# Altium schematic symbol library ColdFire MCU.SchLib: 117 symbols (part 3 of 7)
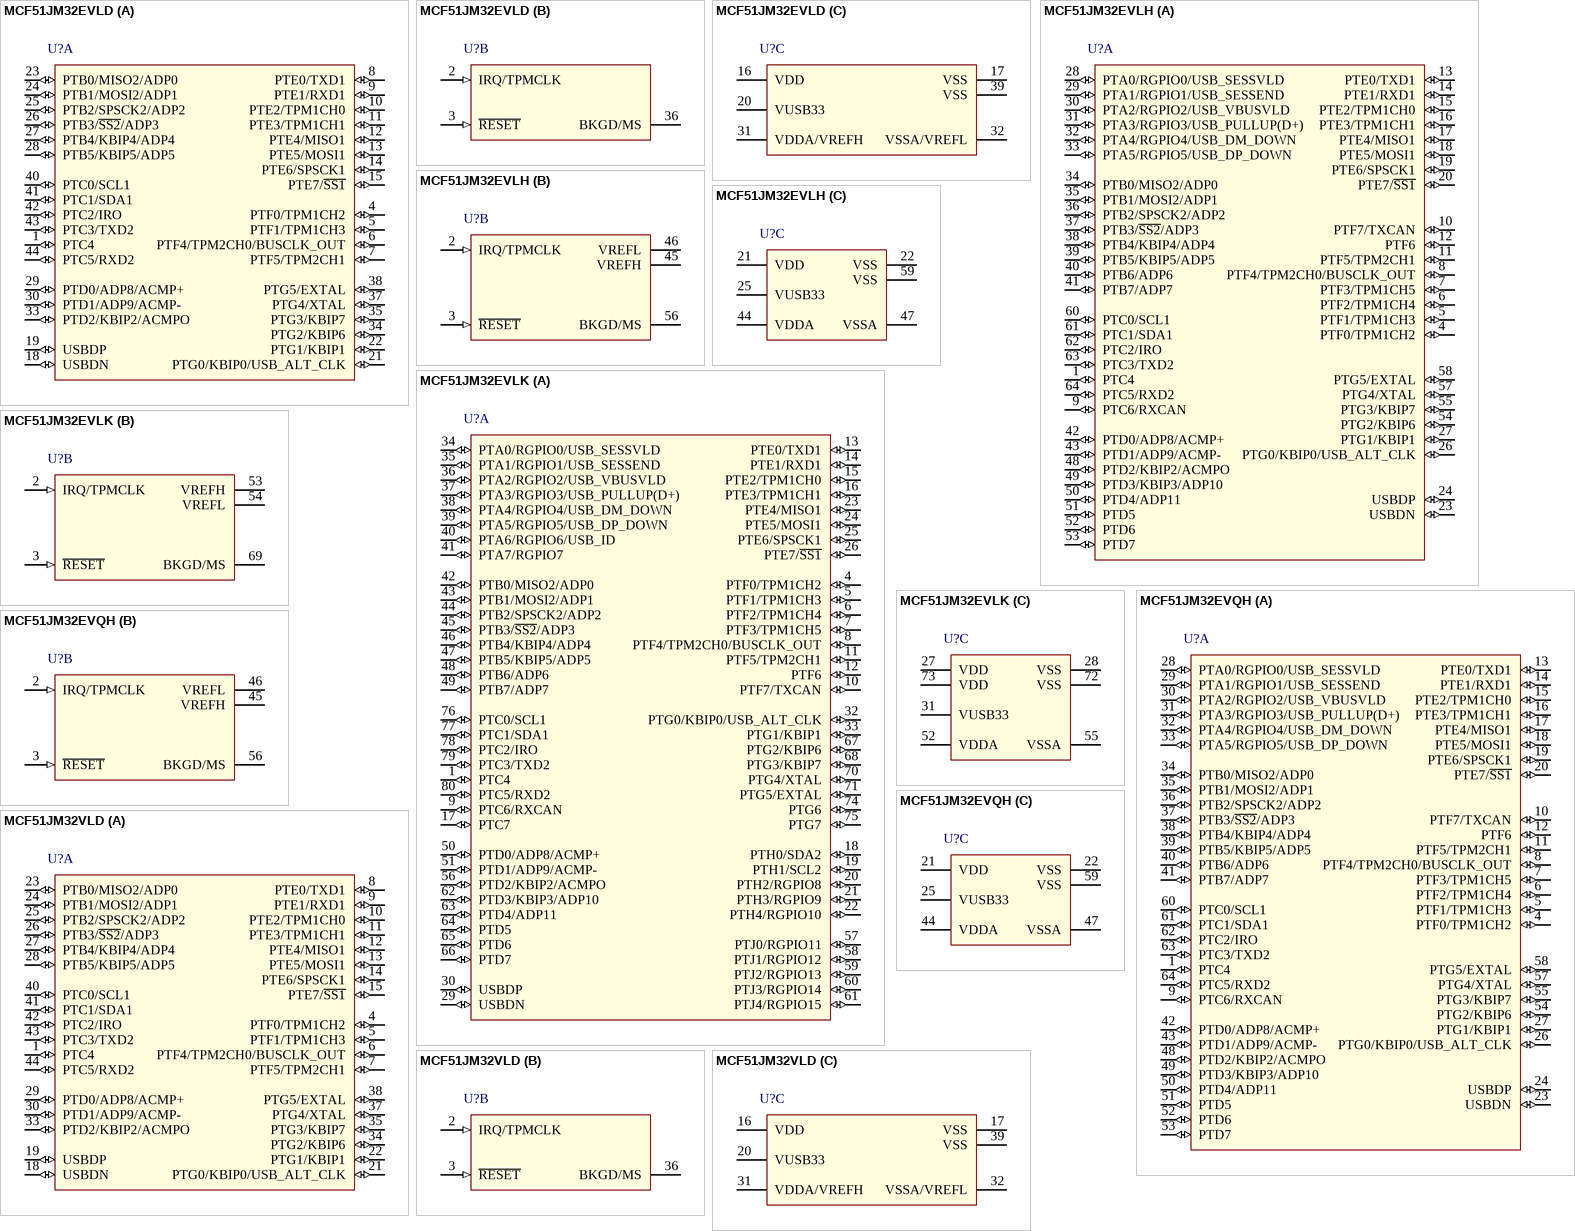
[diagram p33: symbols MCF51JM32EVLD to MCF51JM32VLD]

## MCF51JM32VLD
designator U?
MCF51JM32 ColdFire V1 Microcontroller, 32-Bit, 32KB Flash, 16KB SRAM, -40°C to 105°C, 44-Pin LQFP; DatasheetVersion: rev3, Jun-2009; PackageVersion: rev3, Jun-2009; PackageReference: 824D-02; PackageDescription: 44-Pin Thin Quad Flat Pack, 10 x 10 mm Body, 0.8 mm Pitch; Code_JEDEC: MS-026-BCB; ComponentLink1Description: Manufacturer URL; ComponentLink1URL: http://www.freescale.com/; ComponentLink2Description: Datasheet; ComponentLink2URL: http://cache.freescale.com/files/32bit/doc/data_sheet/MCF51JM128.pdf?fpsp=1&WT_TYPE=Data%20Sheets&WT_VENDOR=FREESCALE&WT_FILE_FORMAT=pdf&WT_ASSET=Documentation
footprint 824D-02_N (Thin QFP, 44-Leads, Body 10x10mm, Pitch 0.8mm, IPC Medium Density)
footprint 824D-02_L (Thin QFP, 44-Leads, Body 10x10mm, Pitch 0.8mm, IPC High Density)
footprint 824D-02_M (Thin QFP, 44-Leads, Body 10x10mm, Pitch 0.8mm, IPC Low Density)
part A pins: 1 PTC4 (io), 4 PTF0/TPM1CH2 (io), 5 PTF1/TPM1CH3 (io), 6 PTF4/TPM2CH0/BUSCLK_OUT (io), 7 PTF5/TPM2CH1 (io), 8 PTE0/TXD1 (io), 9 PTE1/RXD1 (io), 10 PTE2/TPM1CH0 (io), 11 PTE3/TPM1CH1 (io), 12 PTE4/MISO1 (io), 13 PTE5/MOSI1 (io), 14 PTE6/SPSCK1 (io), 15 PTE7/~{SS1} (io), 18 USBDN (io), 19 USBDP (io), 21 PTG0/KBIP0/USB_ALT_CLK (io), 22 PTG1/KBIP1 (io), 23 PTB0/MISO2/ADP0 (io), 24 PTB1/MOSI2/ADP1 (io), 25 PTB2/SPSCK2/ADP2 (io), 26 PTB3/~{SS2}/ADP3 (io), 27 PTB4/KBIP4/ADP4 (io), 28 PTB5/KBIP5/ADP5 (io), 29 PTD0/ADP8/ACMP+ (io), 30 PTD1/ADP9/ACMP- (io), 33 PTD2/KBIP2/ACMPO (io), 34 PTG2/KBIP6 (io), 35 PTG3/KBIP7 (io), 37 PTG4/XTAL (io), 38 PTG5/EXTAL (io), 40 PTC0/SCL1 (io), 41 PTC1/SDA1 (io), 42 PTC2/IRO (io), 43 PTC3/TXD2 (io), 44 PTC5/RXD2 (io)
part B pins: 2 IRQ/TPMCLK (in), 3 ~{RESET} (in), 36 BKGD/MS
part C pins: 16 VDD (power), 17 VSS (power), 20 VUSB33 (power), 31 VDDA/VREFH (power), 32 VSSA/VREFL (power), 39 VSS (power)

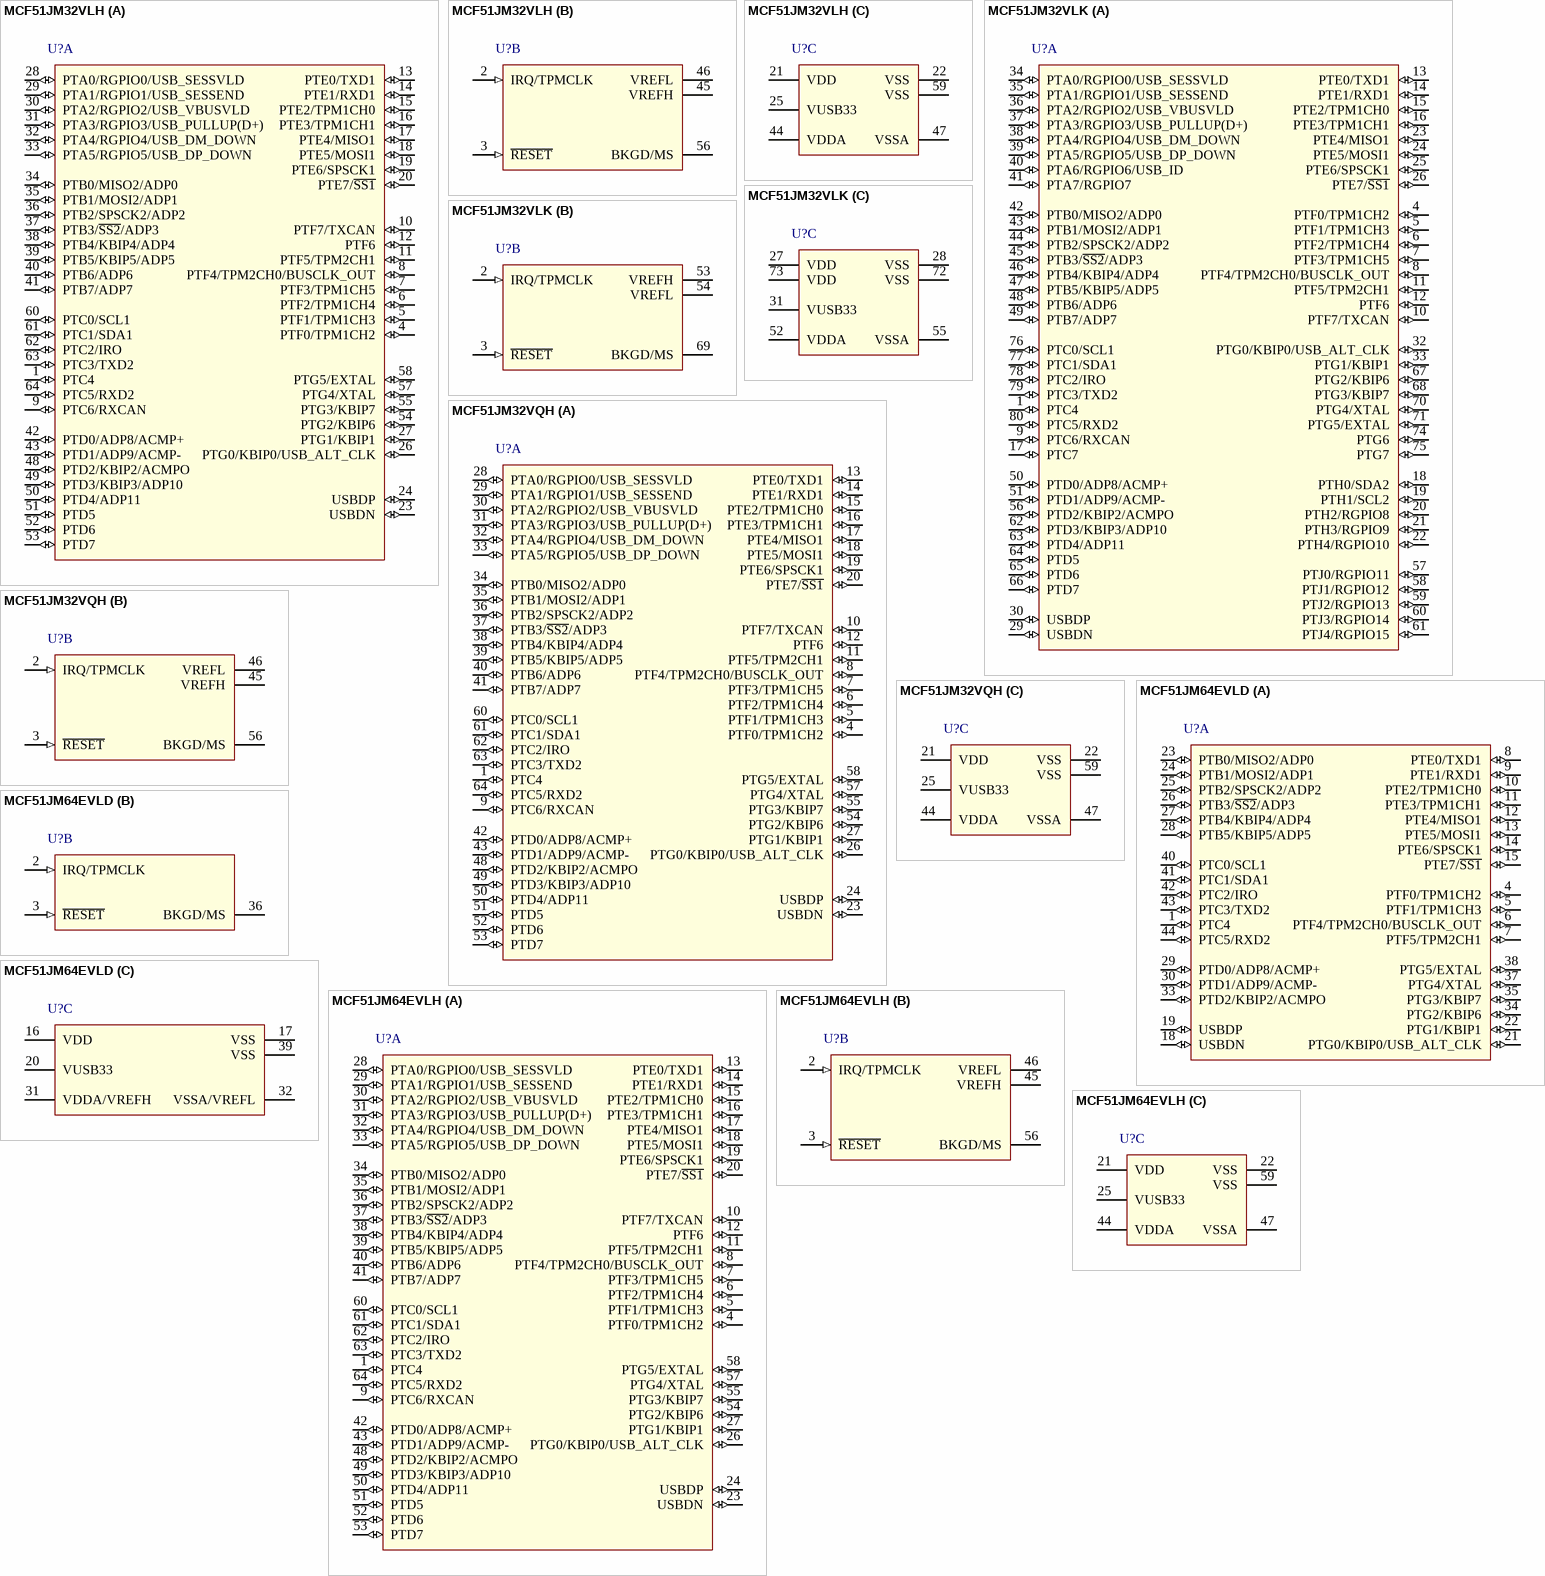
[diagram p9: symbols MCF51JM32VLH to MCF51JM64EVLH]

## MCF51JM32VLH
designator U?
MCF51JM32 ColdFire V1 Microcontroller, 32-Bit, 32KB Flash, 16KB SRAM, -40°C to 105°C, 64-Pin LQFP; DatasheetVersion: rev3, Jun-2009; PackageVersion: rev6, Mar-2011; PackageReference: 840F-02; PackageDescription: 64-Pin Thin Quad Flat Pack, 10 x 10 mm Body, 0.5 mm Pitch; ComponentLink1Description: Manufacturer URL; ComponentLink1URL: http://www.freescale.com/; ComponentLink2Description: Datasheet; ComponentLink2URL: http://cache.freescale.com/files/32bit/doc/data_sheet/MCF51JM128.pdf?fpsp=1&WT_TYPE=Data%20Sheets&WT_VENDOR=FREESCALE&WT_FILE_FORMAT=pdf&WT_ASSET=Documentation
footprint 840F-02_N (Thin QFP, 64-Leads, Body 10x10mm, Pitch 0.5mm, IPC Medium Density)
footprint 840F-02_L (Thin QFP, 64-Leads, Body 10x10mm, Pitch 0.5mm, IPC High Density)
footprint 840F-02_M (Thin QFP, 64-Leads, Body 10x10mm, Pitch 0.5mm, IPC Low Density)
part A pins: 1 PTC4 (io), 4 PTF0/TPM1CH2 (io), 5 PTF1/TPM1CH3 (io), 6 PTF2/TPM1CH4 (io), 7 PTF3/TPM1CH5 (io), 8 PTF4/TPM2CH0/BUSCLK_OUT (io), 9 PTC6/RXCAN (io), 10 PTF7/TXCAN (io), 11 PTF5/TPM2CH1 (io), 12 PTF6 (io), 13 PTE0/TXD1 (io), 14 PTE1/RXD1 (io), 15 PTE2/TPM1CH0 (io), 16 PTE3/TPM1CH1 (io), 17 PTE4/MISO1 (io), 18 PTE5/MOSI1 (io), 19 PTE6/SPSCK1 (io), 20 PTE7/~{SS1} (io), 23 USBDN (io), 24 USBDP (io), 26 PTG0/KBIP0/USB_ALT_CLK (io), 27 PTG1/KBIP1 (io), 28 PTA0/RGPIO0/USB_SESSVLD (io), 29 PTA1/RGPIO1/USB_SESSEND (io), 30 PTA2/RGPIO2/USB_VBUSVLD (io), 31 PTA3/RGPIO3/USB_PULLUP(D+) (io), 32 PTA4/RGPIO4/USB_DM_DOWN (io), 33 PTA5/RGPIO5/USB_DP_DOWN (io), 34 PTB0/MISO2/ADP0 (io), 35 PTB1/MOSI2/ADP1 (io), 36 PTB2/SPSCK2/ADP2 (io), 37 PTB3/~{SS2}/ADP3 (io), 38 PTB4/KBIP4/ADP4 (io), 39 PTB5/KBIP5/ADP5 (io), 40 PTB6/ADP6 (io), 41 PTB7/ADP7 (io), 42 PTD0/ADP8/ACMP+ (io), 43 PTD1/ADP9/ACMP- (io), 48 PTD2/KBIP2/ACMPO (io), 49 PTD3/KBIP3/ADP10 (io), 50 PTD4/ADP11 (io), 51 PTD5 (io), 52 PTD6 (io), 53 PTD7 (io), 54 PTG2/KBIP6 (io), 55 PTG3/KBIP7 (io), 57 PTG4/XTAL (io), 58 PTG5/EXTAL (io), 60 PTC0/SCL1 (io), 61 PTC1/SDA1 (io), 62 PTC2/IRO (io), 63 PTC3/TXD2 (io), 64 PTC5/RXD2 (io)
part B pins: 2 IRQ/TPMCLK (in), 3 ~{RESET} (in), 45 VREFH (power), 46 VREFL (power), 56 BKGD/MS
part C pins: 21 VDD (power), 22 VSS (power), 25 VUSB33 (power), 44 VDDA (power), 47 VSSA (power), 59 VSS (power)

## MCF51JM32VLK
designator U?
MCF51JM32 ColdFire V1 Microcontroller, 32-Bit, 32KB Flash, 16KB SRAM, -40°C to 105°C, 80-Pin LQFP; DatasheetVersion: rev3, Jun-2009; PackageVersion: revC, May-2005; PackageReference: 1418-01; PackageDescription: 80-Pin Quad Flat Pack 0.65 mm Pitch; ComponentLink1Description: Manufacturer URL; ComponentLink1URL: http://www.freescale.com/; ComponentLink2Description: Datasheet; ComponentLink2URL: http://cache.freescale.com/files/32bit/doc/data_sheet/MCF51JM128.pdf?fpsp=1&WT_TYPE=Data%20Sheets&WT_VENDOR=FREESCALE&WT_FILE_FORMAT=pdf&WT_ASSET=Documentation
footprint 1418-01_N (QFP, 80-Leads, Body 14x14mm, Pitch 0.65mm, IPC Medium Density)
footprint 1418-01_L (QFP, 80-Leads, Body 14x14mm, Pitch 0.65mm, IPC High Density)
footprint 1418-01_M (QFP, 80-Leads, Body 14x14mm, Pitch 0.65mm, IPC Low Density)
part A pins: 1 PTC4 (io), 4 PTF0/TPM1CH2 (io), 5 PTF1/TPM1CH3 (io), 6 PTF2/TPM1CH4 (io), 7 PTF3/TPM1CH5 (io), 8 PTF4/TPM2CH0/BUSCLK_OUT (io), 9 PTC6/RXCAN (io), 10 PTF7/TXCAN (io), 11 PTF5/TPM2CH1 (io), 12 PTF6 (io), 13 PTE0/TXD1 (io), 14 PTE1/RXD1 (io), 15 PTE2/TPM1CH0 (io), 16 PTE3/TPM1CH1 (io), 17 PTC7 (io), 18 PTH0/SDA2 (io), 19 PTH1/SCL2 (io), 20 PTH2/RGPIO8 (io), 21 PTH3/RGPIO9 (io), 22 PTH4/RGPIO10 (io), 23 PTE4/MISO1 (io), 24 PTE5/MOSI1 (io), 25 PTE6/SPSCK1 (io), 26 PTE7/~{SS1} (io), 29 USBDN (io), 30 USBDP (io), 32 PTG0/KBIP0/USB_ALT_CLK (io), 33 PTG1/KBIP1 (io), 34 PTA0/RGPIO0/USB_SESSVLD (io), 35 PTA1/RGPIO1/USB_SESSEND (io), 36 PTA2/RGPIO2/USB_VBUSVLD (io), 37 PTA3/RGPIO3/USB_PULLUP(D+) (io), 38 PTA4/RGPIO4/USB_DM_DOWN (io), 39 PTA5/RGPIO5/USB_DP_DOWN (io), 40 PTA6/RGPIO6/USB_ID (io), 41 PTA7/RGPIO7 (io), 42 PTB0/MISO2/ADP0 (io), 43 PTB1/MOSI2/ADP1 (io), 44 PTB2/SPSCK2/ADP2 (io), 45 PTB3/~{SS2}/ADP3 (io), 46 PTB4/KBIP4/ADP4 (io), 47 PTB5/KBIP5/ADP5 (io), 48 PTB6/ADP6 (io), 49 PTB7/ADP7 (io), 50 PTD0/ADP8/ACMP+ (io), 51 PTD1/ADP9/ACMP- (io), 56 PTD2/KBIP2/ACMPO (io), 57 PTJ0/RGPIO11 (io), 58 PTJ1/RGPIO12 (io), 59 PTJ2/RGPIO13 (io), 60 PTJ3/RGPIO14 (io), 61 PTJ4/RGPIO15 (io), 62 PTD3/KBIP3/ADP10 (io), 63 PTD4/ADP11 (io), 64 PTD5 (io), 65 PTD6 (io), 66 PTD7 (io), 67 PTG2/KBIP6 (io), 68 PTG3/KBIP7 (io), 70 PTG4/XTAL (io), 71 PTG5/EXTAL (io), 74 PTG6 (io), 75 PTG7 (io), 76 PTC0/SCL1 (io), 77 PTC1/SDA1 (io), 78 PTC2/IRO (io), 79 PTC3/TXD2 (io), 80 PTC5/RXD2 (io)
part B pins: 2 IRQ/TPMCLK (in), 3 ~{RESET} (in), 53 VREFH (power), 54 VREFL (power), 69 BKGD/MS
part C pins: 27 VDD (power), 28 VSS (power), 31 VUSB33 (power), 52 VDDA (power), 55 VSSA (power), 72 VSS (power), 73 VDD (power)

## MCF51JM32VQH
designator U?
MCF51JM32 ColdFire V1 Microcontroller, 32-Bit, 32KB Flash, 16KB SRAM, -40°C to 105°C, 64-Pin QFP; DatasheetVersion: rev3, Jun-2009; PackageVersion: rev6, Mar-2011; PackageReference: 840B-02; PackageDescription: 64-Pin Quad Flat Pack, 14 x 14 mm Body, 0.8 mm Pitch; ComponentLink1Description: Manufacturer URL; ComponentLink1URL: http://www.freescale.com/; ComponentLink2Description: Datasheet; ComponentLink2URL: http://cache.freescale.com/files/32bit/doc/data_sheet/MCF51JM128.pdf?fpsp=1&WT_TYPE=Data%20Sheets&WT_VENDOR=FREESCALE&WT_FILE_FORMAT=pdf&WT_ASSET=Documentation
footprint 840B-02_N (QFP, 64-Leads, Body 14x14mm, Pitch 0.8mm, IPC Medium Density)
footprint 840B-02_L (QFP, 64-Leads, Body 14x14mm, Pitch 0.8mm, IPC High Density)
footprint 840B-02_M (QFP, 64-Leads, Body 14x14mm, Pitch 0.8mm, IPC Low Density)
part A pins: 1 PTC4 (io), 4 PTF0/TPM1CH2 (io), 5 PTF1/TPM1CH3 (io), 6 PTF2/TPM1CH4 (io), 7 PTF3/TPM1CH5 (io), 8 PTF4/TPM2CH0/BUSCLK_OUT (io), 9 PTC6/RXCAN (io), 10 PTF7/TXCAN (io), 11 PTF5/TPM2CH1 (io), 12 PTF6 (io), 13 PTE0/TXD1 (io), 14 PTE1/RXD1 (io), 15 PTE2/TPM1CH0 (io), 16 PTE3/TPM1CH1 (io), 17 PTE4/MISO1 (io), 18 PTE5/MOSI1 (io), 19 PTE6/SPSCK1 (io), 20 PTE7/~{SS1} (io), 23 USBDN (io), 24 USBDP (io), 26 PTG0/KBIP0/USB_ALT_CLK (io), 27 PTG1/KBIP1 (io), 28 PTA0/RGPIO0/USB_SESSVLD (io), 29 PTA1/RGPIO1/USB_SESSEND (io), 30 PTA2/RGPIO2/USB_VBUSVLD (io), 31 PTA3/RGPIO3/USB_PULLUP(D+) (io), 32 PTA4/RGPIO4/USB_DM_DOWN (io), 33 PTA5/RGPIO5/USB_DP_DOWN (io), 34 PTB0/MISO2/ADP0 (io), 35 PTB1/MOSI2/ADP1 (io), 36 PTB2/SPSCK2/ADP2 (io), 37 PTB3/~{SS2}/ADP3 (io), 38 PTB4/KBIP4/ADP4 (io), 39 PTB5/KBIP5/ADP5 (io), 40 PTB6/ADP6 (io), 41 PTB7/ADP7 (io), 42 PTD0/ADP8/ACMP+ (io), 43 PTD1/ADP9/ACMP- (io), 48 PTD2/KBIP2/ACMPO (io), 49 PTD3/KBIP3/ADP10 (io), 50 PTD4/ADP11 (io), 51 PTD5 (io), 52 PTD6 (io), 53 PTD7 (io), 54 PTG2/KBIP6 (io), 55 PTG3/KBIP7 (io), 57 PTG4/XTAL (io), 58 PTG5/EXTAL (io), 60 PTC0/SCL1 (io), 61 PTC1/SDA1 (io), 62 PTC2/IRO (io), 63 PTC3/TXD2 (io), 64 PTC5/RXD2 (io)
part B pins: 2 IRQ/TPMCLK (in), 3 ~{RESET} (in), 45 VREFH (power), 46 VREFL (power), 56 BKGD/MS
part C pins: 21 VDD (power), 22 VSS (power), 25 VUSB33 (power), 44 VDDA (power), 47 VSSA (power), 59 VSS (power)

## MCF51JM64EVLD
designator U?
MCF51JM64 ColdFire V1 Microcontroller with CAU and RNGA Enabled, 32-Bit, 64KB Flash, 16KB SRAM, -40°C to 105°C, 44-Pin LQFP; DatasheetVersion: rev3, Jun-2009; PackageVersion: rev3, Jun-2009; PackageReference: 824D-02; PackageDescription: 44-Pin Thin Quad Flat Pack, 10 x 10 mm Body, 0.8 mm Pitch; Code_JEDEC: MS-026-BCB; ComponentLink1Description: Manufacturer URL; ComponentLink1URL: http://www.freescale.com/; ComponentLink2Description: Datasheet; ComponentLink2URL: http://cache.freescale.com/files/32bit/doc/data_sheet/MCF51JM128.pdf?fpsp=1&WT_TYPE=Data%20Sheets&WT_VENDOR=FREESCALE&WT_FILE_FORMAT=pdf&WT_ASSET=Documentation
footprint 824D-02_N (Thin QFP, 44-Leads, Body 10x10mm, Pitch 0.8mm, IPC Medium Density)
footprint 824D-02_L (Thin QFP, 44-Leads, Body 10x10mm, Pitch 0.8mm, IPC High Density)
footprint 824D-02_M (Thin QFP, 44-Leads, Body 10x10mm, Pitch 0.8mm, IPC Low Density)
part A pins: 1 PTC4 (io), 4 PTF0/TPM1CH2 (io), 5 PTF1/TPM1CH3 (io), 6 PTF4/TPM2CH0/BUSCLK_OUT (io), 7 PTF5/TPM2CH1 (io), 8 PTE0/TXD1 (io), 9 PTE1/RXD1 (io), 10 PTE2/TPM1CH0 (io), 11 PTE3/TPM1CH1 (io), 12 PTE4/MISO1 (io), 13 PTE5/MOSI1 (io), 14 PTE6/SPSCK1 (io), 15 PTE7/~{SS1} (io), 18 USBDN (io), 19 USBDP (io), 21 PTG0/KBIP0/USB_ALT_CLK (io), 22 PTG1/KBIP1 (io), 23 PTB0/MISO2/ADP0 (io), 24 PTB1/MOSI2/ADP1 (io), 25 PTB2/SPSCK2/ADP2 (io), 26 PTB3/~{SS2}/ADP3 (io), 27 PTB4/KBIP4/ADP4 (io), 28 PTB5/KBIP5/ADP5 (io), 29 PTD0/ADP8/ACMP+ (io), 30 PTD1/ADP9/ACMP- (io), 33 PTD2/KBIP2/ACMPO (io), 34 PTG2/KBIP6 (io), 35 PTG3/KBIP7 (io), 37 PTG4/XTAL (io), 38 PTG5/EXTAL (io), 40 PTC0/SCL1 (io), 41 PTC1/SDA1 (io), 42 PTC2/IRO (io), 43 PTC3/TXD2 (io), 44 PTC5/RXD2 (io)
part B pins: 2 IRQ/TPMCLK (in), 3 ~{RESET} (in), 36 BKGD/MS
part C pins: 16 VDD (power), 17 VSS (power), 20 VUSB33 (power), 31 VDDA/VREFH (power), 32 VSSA/VREFL (power), 39 VSS (power)

## MCF51JM64EVLH
designator U?
MCF51JM64 ColdFire V1 Microcontroller with CAU and RNGA Enabled, 32-Bit, 64KB Flash, 16KB SRAM, -40°C to 105°C, 64-Pin LQFP; DatasheetVersion: rev3, Jun-2009; PackageVersion: rev6, Mar-2011; PackageReference: 840F-02; PackageDescription: 64-Pin Thin Quad Flat Pack, 10 x 10 mm Body, 0.5 mm Pitch; ComponentLink1Description: Manufacturer URL; ComponentLink1URL: http://www.freescale.com/; ComponentLink2Description: Datasheet; ComponentLink2URL: http://cache.freescale.com/files/32bit/doc/data_sheet/MCF51JM128.pdf?fpsp=1&WT_TYPE=Data%20Sheets&WT_VENDOR=FREESCALE&WT_FILE_FORMAT=pdf&WT_ASSET=Documentation
footprint 840F-02_N (Thin QFP, 64-Leads, Body 10x10mm, Pitch 0.5mm, IPC Medium Density)
footprint 840F-02_L (Thin QFP, 64-Leads, Body 10x10mm, Pitch 0.5mm, IPC High Density)
footprint 840F-02_M (Thin QFP, 64-Leads, Body 10x10mm, Pitch 0.5mm, IPC Low Density)
part A pins: 1 PTC4 (io), 4 PTF0/TPM1CH2 (io), 5 PTF1/TPM1CH3 (io), 6 PTF2/TPM1CH4 (io), 7 PTF3/TPM1CH5 (io), 8 PTF4/TPM2CH0/BUSCLK_OUT (io), 9 PTC6/RXCAN (io), 10 PTF7/TXCAN (io), 11 PTF5/TPM2CH1 (io), 12 PTF6 (io), 13 PTE0/TXD1 (io), 14 PTE1/RXD1 (io), 15 PTE2/TPM1CH0 (io), 16 PTE3/TPM1CH1 (io), 17 PTE4/MISO1 (io), 18 PTE5/MOSI1 (io), 19 PTE6/SPSCK1 (io), 20 PTE7/~{SS1} (io), 23 USBDN (io), 24 USBDP (io), 26 PTG0/KBIP0/USB_ALT_CLK (io), 27 PTG1/KBIP1 (io), 28 PTA0/RGPIO0/USB_SESSVLD (io), 29 PTA1/RGPIO1/USB_SESSEND (io), 30 PTA2/RGPIO2/USB_VBUSVLD (io), 31 PTA3/RGPIO3/USB_PULLUP(D+) (io), 32 PTA4/RGPIO4/USB_DM_DOWN (io), 33 PTA5/RGPIO5/USB_DP_DOWN (io), 34 PTB0/MISO2/ADP0 (io), 35 PTB1/MOSI2/ADP1 (io), 36 PTB2/SPSCK2/ADP2 (io), 37 PTB3/~{SS2}/ADP3 (io), 38 PTB4/KBIP4/ADP4 (io), 39 PTB5/KBIP5/ADP5 (io), 40 PTB6/ADP6 (io), 41 PTB7/ADP7 (io), 42 PTD0/ADP8/ACMP+ (io), 43 PTD1/ADP9/ACMP- (io), 48 PTD2/KBIP2/ACMPO (io), 49 PTD3/KBIP3/ADP10 (io), 50 PTD4/ADP11 (io), 51 PTD5 (io), 52 PTD6 (io), 53 PTD7 (io), 54 PTG2/KBIP6 (io), 55 PTG3/KBIP7 (io), 57 PTG4/XTAL (io), 58 PTG5/EXTAL (io), 60 PTC0/SCL1 (io), 61 PTC1/SDA1 (io), 62 PTC2/IRO (io), 63 PTC3/TXD2 (io), 64 PTC5/RXD2 (io)
part B pins: 2 IRQ/TPMCLK (in), 3 ~{RESET} (in), 45 VREFH (power), 46 VREFL (power), 56 BKGD/MS
part C pins: 21 VDD (power), 22 VSS (power), 25 VUSB33 (power), 44 VDDA (power), 47 VSSA (power), 59 VSS (power)

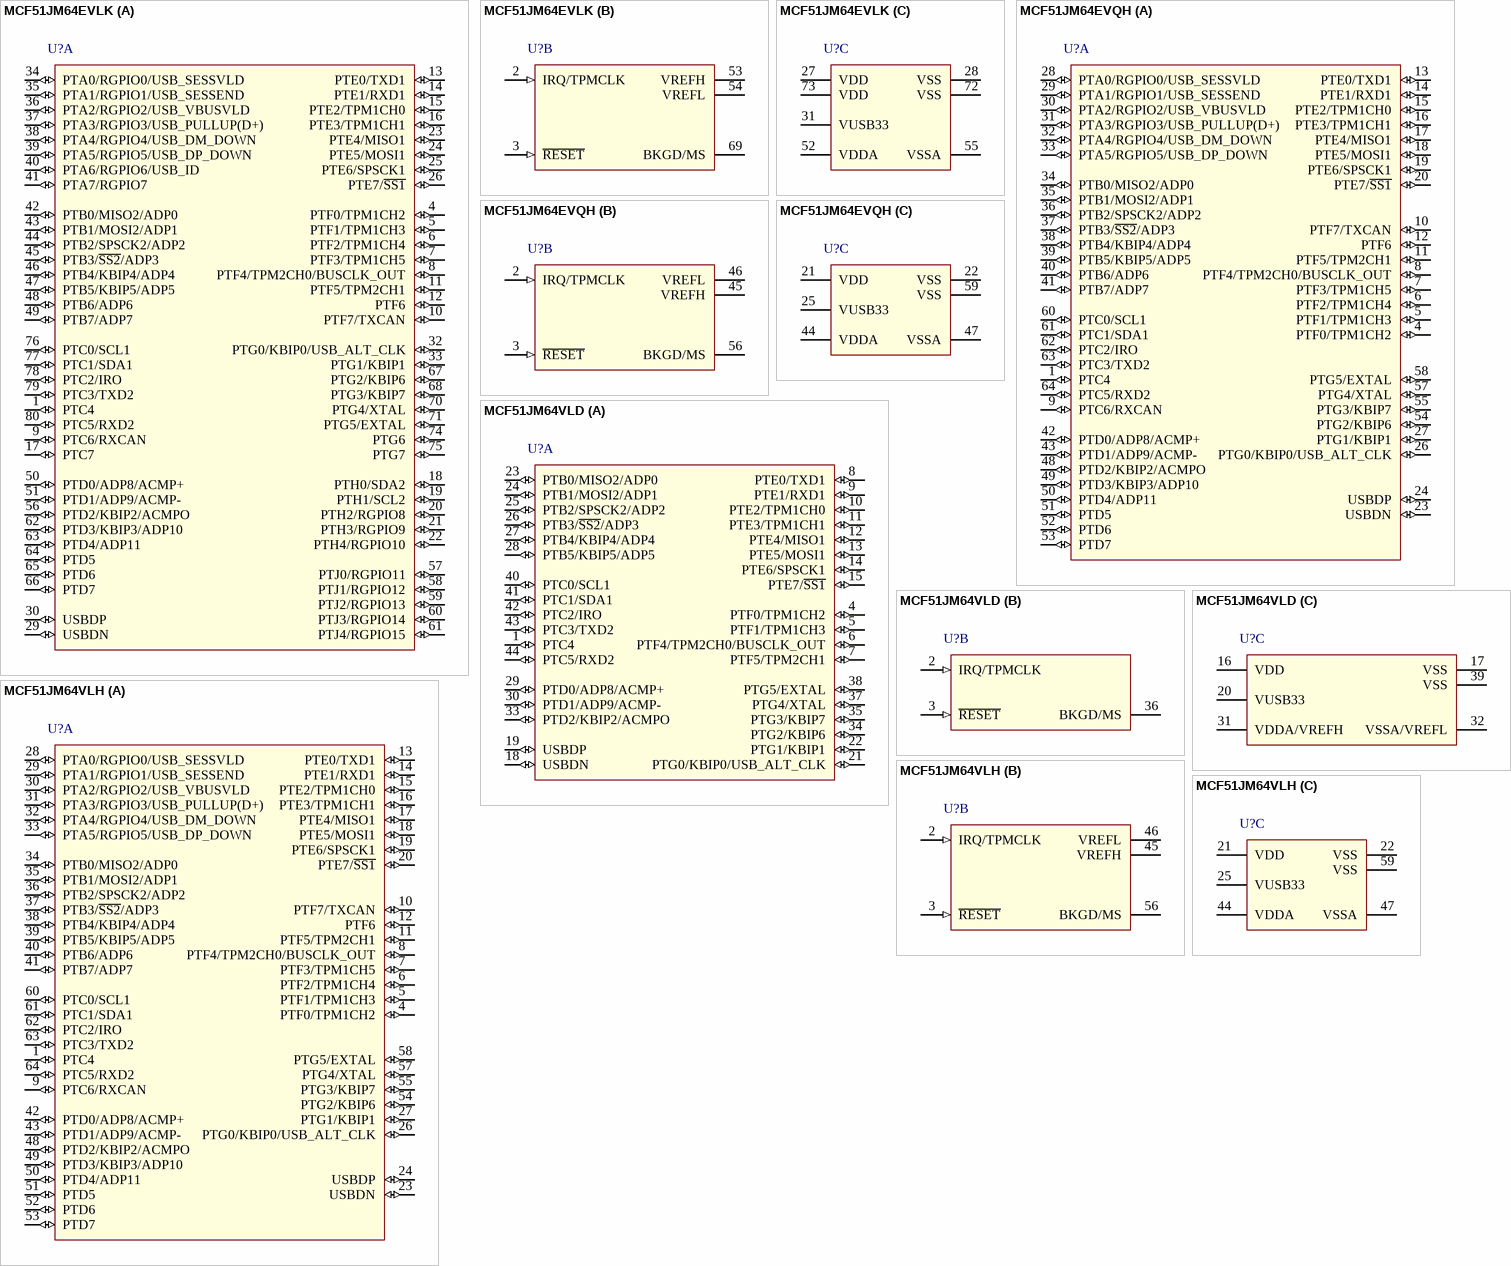
[diagram p10: symbols MCF51JM64EVLK to MCF51JM64VLH]

## MCF51JM64EVLK
designator U?
MCF51JM64 ColdFire V1 Microcontroller with CAU and RNGA Enabled, 32-Bit, 64KB Flash, 16KB SRAM, -40°C to 105°C, 80-Pin LQFP; DatasheetVersion: rev3, Jun-2009; PackageVersion: revC, May-2005; PackageReference: 1418-01; PackageDescription: 80-Pin Quad Flat Pack 0.65 mm Pitch; ComponentLink1Description: Manufacturer URL; ComponentLink1URL: http://www.freescale.com/; ComponentLink2Description: Datasheet; ComponentLink2URL: http://cache.freescale.com/files/32bit/doc/data_sheet/MCF51JM128.pdf?fpsp=1&WT_TYPE=Data%20Sheets&WT_VENDOR=FREESCALE&WT_FILE_FORMAT=pdf&WT_ASSET=Documentation
footprint 1418-01_N (QFP, 80-Leads, Body 14x14mm, Pitch 0.65mm, IPC Medium Density)
footprint 1418-01_L (QFP, 80-Leads, Body 14x14mm, Pitch 0.65mm, IPC High Density)
footprint 1418-01_M (QFP, 80-Leads, Body 14x14mm, Pitch 0.65mm, IPC Low Density)
part A pins: 1 PTC4 (io), 4 PTF0/TPM1CH2 (io), 5 PTF1/TPM1CH3 (io), 6 PTF2/TPM1CH4 (io), 7 PTF3/TPM1CH5 (io), 8 PTF4/TPM2CH0/BUSCLK_OUT (io), 9 PTC6/RXCAN (io), 10 PTF7/TXCAN (io), 11 PTF5/TPM2CH1 (io), 12 PTF6 (io), 13 PTE0/TXD1 (io), 14 PTE1/RXD1 (io), 15 PTE2/TPM1CH0 (io), 16 PTE3/TPM1CH1 (io), 17 PTC7 (io), 18 PTH0/SDA2 (io), 19 PTH1/SCL2 (io), 20 PTH2/RGPIO8 (io), 21 PTH3/RGPIO9 (io), 22 PTH4/RGPIO10 (io), 23 PTE4/MISO1 (io), 24 PTE5/MOSI1 (io), 25 PTE6/SPSCK1 (io), 26 PTE7/~{SS1} (io), 29 USBDN (io), 30 USBDP (io), 32 PTG0/KBIP0/USB_ALT_CLK (io), 33 PTG1/KBIP1 (io), 34 PTA0/RGPIO0/USB_SESSVLD (io), 35 PTA1/RGPIO1/USB_SESSEND (io), 36 PTA2/RGPIO2/USB_VBUSVLD (io), 37 PTA3/RGPIO3/USB_PULLUP(D+) (io), 38 PTA4/RGPIO4/USB_DM_DOWN (io), 39 PTA5/RGPIO5/USB_DP_DOWN (io), 40 PTA6/RGPIO6/USB_ID (io), 41 PTA7/RGPIO7 (io), 42 PTB0/MISO2/ADP0 (io), 43 PTB1/MOSI2/ADP1 (io), 44 PTB2/SPSCK2/ADP2 (io), 45 PTB3/~{SS2}/ADP3 (io), 46 PTB4/KBIP4/ADP4 (io), 47 PTB5/KBIP5/ADP5 (io), 48 PTB6/ADP6 (io), 49 PTB7/ADP7 (io), 50 PTD0/ADP8/ACMP+ (io), 51 PTD1/ADP9/ACMP- (io), 56 PTD2/KBIP2/ACMPO (io), 57 PTJ0/RGPIO11 (io), 58 PTJ1/RGPIO12 (io), 59 PTJ2/RGPIO13 (io), 60 PTJ3/RGPIO14 (io), 61 PTJ4/RGPIO15 (io), 62 PTD3/KBIP3/ADP10 (io), 63 PTD4/ADP11 (io), 64 PTD5 (io), 65 PTD6 (io), 66 PTD7 (io), 67 PTG2/KBIP6 (io), 68 PTG3/KBIP7 (io), 70 PTG4/XTAL (io), 71 PTG5/EXTAL (io), 74 PTG6 (io), 75 PTG7 (io), 76 PTC0/SCL1 (io), 77 PTC1/SDA1 (io), 78 PTC2/IRO (io), 79 PTC3/TXD2 (io), 80 PTC5/RXD2 (io)
part B pins: 2 IRQ/TPMCLK (in), 3 ~{RESET} (in), 53 VREFH (power), 54 VREFL (power), 69 BKGD/MS
part C pins: 27 VDD (power), 28 VSS (power), 31 VUSB33 (power), 52 VDDA (power), 55 VSSA (power), 72 VSS (power), 73 VDD (power)

## MCF51JM64EVQH
designator U?
MCF51JM64 ColdFire V1 Microcontroller with CAU and RNGA Enabled, 32-Bit, 64KB Flash, 16KB SRAM, -40°C to 105°C, 64-Pin QFP; DatasheetVersion: rev3, Jun-2009; PackageVersion: rev6, Mar-2011; PackageReference: 840B-02; PackageDescription: 64-Pin Quad Flat Pack, 14 x 14 mm Body, 0.8 mm Pitch; ComponentLink1Description: Manufacturer URL; ComponentLink1URL: http://www.freescale.com/; ComponentLink2Description: Datasheet; ComponentLink2URL: http://cache.freescale.com/files/32bit/doc/data_sheet/MCF51JM128.pdf?fpsp=1&WT_TYPE=Data%20Sheets&WT_VENDOR=FREESCALE&WT_FILE_FORMAT=pdf&WT_ASSET=Documentation
footprint 840B-02_N (QFP, 64-Leads, Body 14x14mm, Pitch 0.8mm, IPC Medium Density)
footprint 840B-02_L (QFP, 64-Leads, Body 14x14mm, Pitch 0.8mm, IPC High Density)
footprint 840B-02_M (QFP, 64-Leads, Body 14x14mm, Pitch 0.8mm, IPC Low Density)
part A pins: 1 PTC4 (io), 4 PTF0/TPM1CH2 (io), 5 PTF1/TPM1CH3 (io), 6 PTF2/TPM1CH4 (io), 7 PTF3/TPM1CH5 (io), 8 PTF4/TPM2CH0/BUSCLK_OUT (io), 9 PTC6/RXCAN (io), 10 PTF7/TXCAN (io), 11 PTF5/TPM2CH1 (io), 12 PTF6 (io), 13 PTE0/TXD1 (io), 14 PTE1/RXD1 (io), 15 PTE2/TPM1CH0 (io), 16 PTE3/TPM1CH1 (io), 17 PTE4/MISO1 (io), 18 PTE5/MOSI1 (io), 19 PTE6/SPSCK1 (io), 20 PTE7/~{SS1} (io), 23 USBDN (io), 24 USBDP (io), 26 PTG0/KBIP0/USB_ALT_CLK (io), 27 PTG1/KBIP1 (io), 28 PTA0/RGPIO0/USB_SESSVLD (io), 29 PTA1/RGPIO1/USB_SESSEND (io), 30 PTA2/RGPIO2/USB_VBUSVLD (io), 31 PTA3/RGPIO3/USB_PULLUP(D+) (io), 32 PTA4/RGPIO4/USB_DM_DOWN (io), 33 PTA5/RGPIO5/USB_DP_DOWN (io), 34 PTB0/MISO2/ADP0 (io), 35 PTB1/MOSI2/ADP1 (io), 36 PTB2/SPSCK2/ADP2 (io), 37 PTB3/~{SS2}/ADP3 (io), 38 PTB4/KBIP4/ADP4 (io), 39 PTB5/KBIP5/ADP5 (io), 40 PTB6/ADP6 (io), 41 PTB7/ADP7 (io), 42 PTD0/ADP8/ACMP+ (io), 43 PTD1/ADP9/ACMP- (io), 48 PTD2/KBIP2/ACMPO (io), 49 PTD3/KBIP3/ADP10 (io), 50 PTD4/ADP11 (io), 51 PTD5 (io), 52 PTD6 (io), 53 PTD7 (io), 54 PTG2/KBIP6 (io), 55 PTG3/KBIP7 (io), 57 PTG4/XTAL (io), 58 PTG5/EXTAL (io), 60 PTC0/SCL1 (io), 61 PTC1/SDA1 (io), 62 PTC2/IRO (io), 63 PTC3/TXD2 (io), 64 PTC5/RXD2 (io)
part B pins: 2 IRQ/TPMCLK (in), 3 ~{RESET} (in), 45 VREFH (power), 46 VREFL (power), 56 BKGD/MS
part C pins: 21 VDD (power), 22 VSS (power), 25 VUSB33 (power), 44 VDDA (power), 47 VSSA (power), 59 VSS (power)

## MCF51JM64VLD
designator U?
MCF51JM64 ColdFire V1 Microcontroller, 32-Bit, 64KB Flash, 16KB SRAM, -40°C to 105°C, 44-Pin LQFP; DatasheetVersion: rev3, Jun-2009; PackageVersion: rev3, Jun-2009; PackageReference: 824D-02; PackageDescription: 44-Pin Thin Quad Flat Pack, 10 x 10 mm Body, 0.8 mm Pitch; Code_JEDEC: MS-026-BCB; ComponentLink1Description: Manufacturer URL; ComponentLink1URL: http://www.freescale.com/; ComponentLink2Description: Datasheet; ComponentLink2URL: http://cache.freescale.com/files/32bit/doc/data_sheet/MCF51JM128.pdf?fpsp=1&WT_TYPE=Data%20Sheets&WT_VENDOR=FREESCALE&WT_FILE_FORMAT=pdf&WT_ASSET=Documentation
footprint 824D-02_N (Thin QFP, 44-Leads, Body 10x10mm, Pitch 0.8mm, IPC Medium Density)
footprint 824D-02_L (Thin QFP, 44-Leads, Body 10x10mm, Pitch 0.8mm, IPC High Density)
footprint 824D-02_M (Thin QFP, 44-Leads, Body 10x10mm, Pitch 0.8mm, IPC Low Density)
part A pins: 1 PTC4 (io), 4 PTF0/TPM1CH2 (io), 5 PTF1/TPM1CH3 (io), 6 PTF4/TPM2CH0/BUSCLK_OUT (io), 7 PTF5/TPM2CH1 (io), 8 PTE0/TXD1 (io), 9 PTE1/RXD1 (io), 10 PTE2/TPM1CH0 (io), 11 PTE3/TPM1CH1 (io), 12 PTE4/MISO1 (io), 13 PTE5/MOSI1 (io), 14 PTE6/SPSCK1 (io), 15 PTE7/~{SS1} (io), 18 USBDN (io), 19 USBDP (io), 21 PTG0/KBIP0/USB_ALT_CLK (io), 22 PTG1/KBIP1 (io), 23 PTB0/MISO2/ADP0 (io), 24 PTB1/MOSI2/ADP1 (io), 25 PTB2/SPSCK2/ADP2 (io), 26 PTB3/~{SS2}/ADP3 (io), 27 PTB4/KBIP4/ADP4 (io), 28 PTB5/KBIP5/ADP5 (io), 29 PTD0/ADP8/ACMP+ (io), 30 PTD1/ADP9/ACMP- (io), 33 PTD2/KBIP2/ACMPO (io), 34 PTG2/KBIP6 (io), 35 PTG3/KBIP7 (io), 37 PTG4/XTAL (io), 38 PTG5/EXTAL (io), 40 PTC0/SCL1 (io), 41 PTC1/SDA1 (io), 42 PTC2/IRO (io), 43 PTC3/TXD2 (io), 44 PTC5/RXD2 (io)
part B pins: 2 IRQ/TPMCLK (in), 3 ~{RESET} (in), 36 BKGD/MS
part C pins: 16 VDD (power), 17 VSS (power), 20 VUSB33 (power), 31 VDDA/VREFH (power), 32 VSSA/VREFL (power), 39 VSS (power)

## MCF51JM64VLH
designator U?
MCF51JM64 ColdFire V1 Microcontroller, 32-Bit, 64KB Flash, 16KB SRAM, -40°C to 105°C, 64-Pin LQFP; DatasheetVersion: rev3, Jun-2009; PackageVersion: rev6, Mar-2011; PackageReference: 840F-02; PackageDescription: 64-Pin Thin Quad Flat Pack, 10 x 10 mm Body, 0.5 mm Pitch; ComponentLink1Description: Manufacturer URL; ComponentLink1URL: http://www.freescale.com/; ComponentLink2Description: Datasheet; ComponentLink2URL: http://cache.freescale.com/files/32bit/doc/data_sheet/MCF51JM128.pdf?fpsp=1&WT_TYPE=Data%20Sheets&WT_VENDOR=FREESCALE&WT_FILE_FORMAT=pdf&WT_ASSET=Documentation
footprint 840F-02_N (Thin QFP, 64-Leads, Body 10x10mm, Pitch 0.5mm, IPC Medium Density)
footprint 840F-02_L (Thin QFP, 64-Leads, Body 10x10mm, Pitch 0.5mm, IPC High Density)
footprint 840F-02_M (Thin QFP, 64-Leads, Body 10x10mm, Pitch 0.5mm, IPC Low Density)
part A pins: 1 PTC4 (io), 4 PTF0/TPM1CH2 (io), 5 PTF1/TPM1CH3 (io), 6 PTF2/TPM1CH4 (io), 7 PTF3/TPM1CH5 (io), 8 PTF4/TPM2CH0/BUSCLK_OUT (io), 9 PTC6/RXCAN (io), 10 PTF7/TXCAN (io), 11 PTF5/TPM2CH1 (io), 12 PTF6 (io), 13 PTE0/TXD1 (io), 14 PTE1/RXD1 (io), 15 PTE2/TPM1CH0 (io), 16 PTE3/TPM1CH1 (io), 17 PTE4/MISO1 (io), 18 PTE5/MOSI1 (io), 19 PTE6/SPSCK1 (io), 20 PTE7/~{SS1} (io), 23 USBDN (io), 24 USBDP (io), 26 PTG0/KBIP0/USB_ALT_CLK (io), 27 PTG1/KBIP1 (io), 28 PTA0/RGPIO0/USB_SESSVLD (io), 29 PTA1/RGPIO1/USB_SESSEND (io), 30 PTA2/RGPIO2/USB_VBUSVLD (io), 31 PTA3/RGPIO3/USB_PULLUP(D+) (io), 32 PTA4/RGPIO4/USB_DM_DOWN (io), 33 PTA5/RGPIO5/USB_DP_DOWN (io), 34 PTB0/MISO2/ADP0 (io), 35 PTB1/MOSI2/ADP1 (io), 36 PTB2/SPSCK2/ADP2 (io), 37 PTB3/~{SS2}/ADP3 (io), 38 PTB4/KBIP4/ADP4 (io), 39 PTB5/KBIP5/ADP5 (io), 40 PTB6/ADP6 (io), 41 PTB7/ADP7 (io), 42 PTD0/ADP8/ACMP+ (io), 43 PTD1/ADP9/ACMP- (io), 48 PTD2/KBIP2/ACMPO (io), 49 PTD3/KBIP3/ADP10 (io), 50 PTD4/ADP11 (io), 51 PTD5 (io), 52 PTD6 (io), 53 PTD7 (io), 54 PTG2/KBIP6 (io), 55 PTG3/KBIP7 (io), 57 PTG4/XTAL (io), 58 PTG5/EXTAL (io), 60 PTC0/SCL1 (io), 61 PTC1/SDA1 (io), 62 PTC2/IRO (io), 63 PTC3/TXD2 (io), 64 PTC5/RXD2 (io)
part B pins: 2 IRQ/TPMCLK (in), 3 ~{RESET} (in), 45 VREFH (power), 46 VREFL (power), 56 BKGD/MS
part C pins: 21 VDD (power), 22 VSS (power), 25 VUSB33 (power), 44 VDDA (power), 47 VSSA (power), 59 VSS (power)

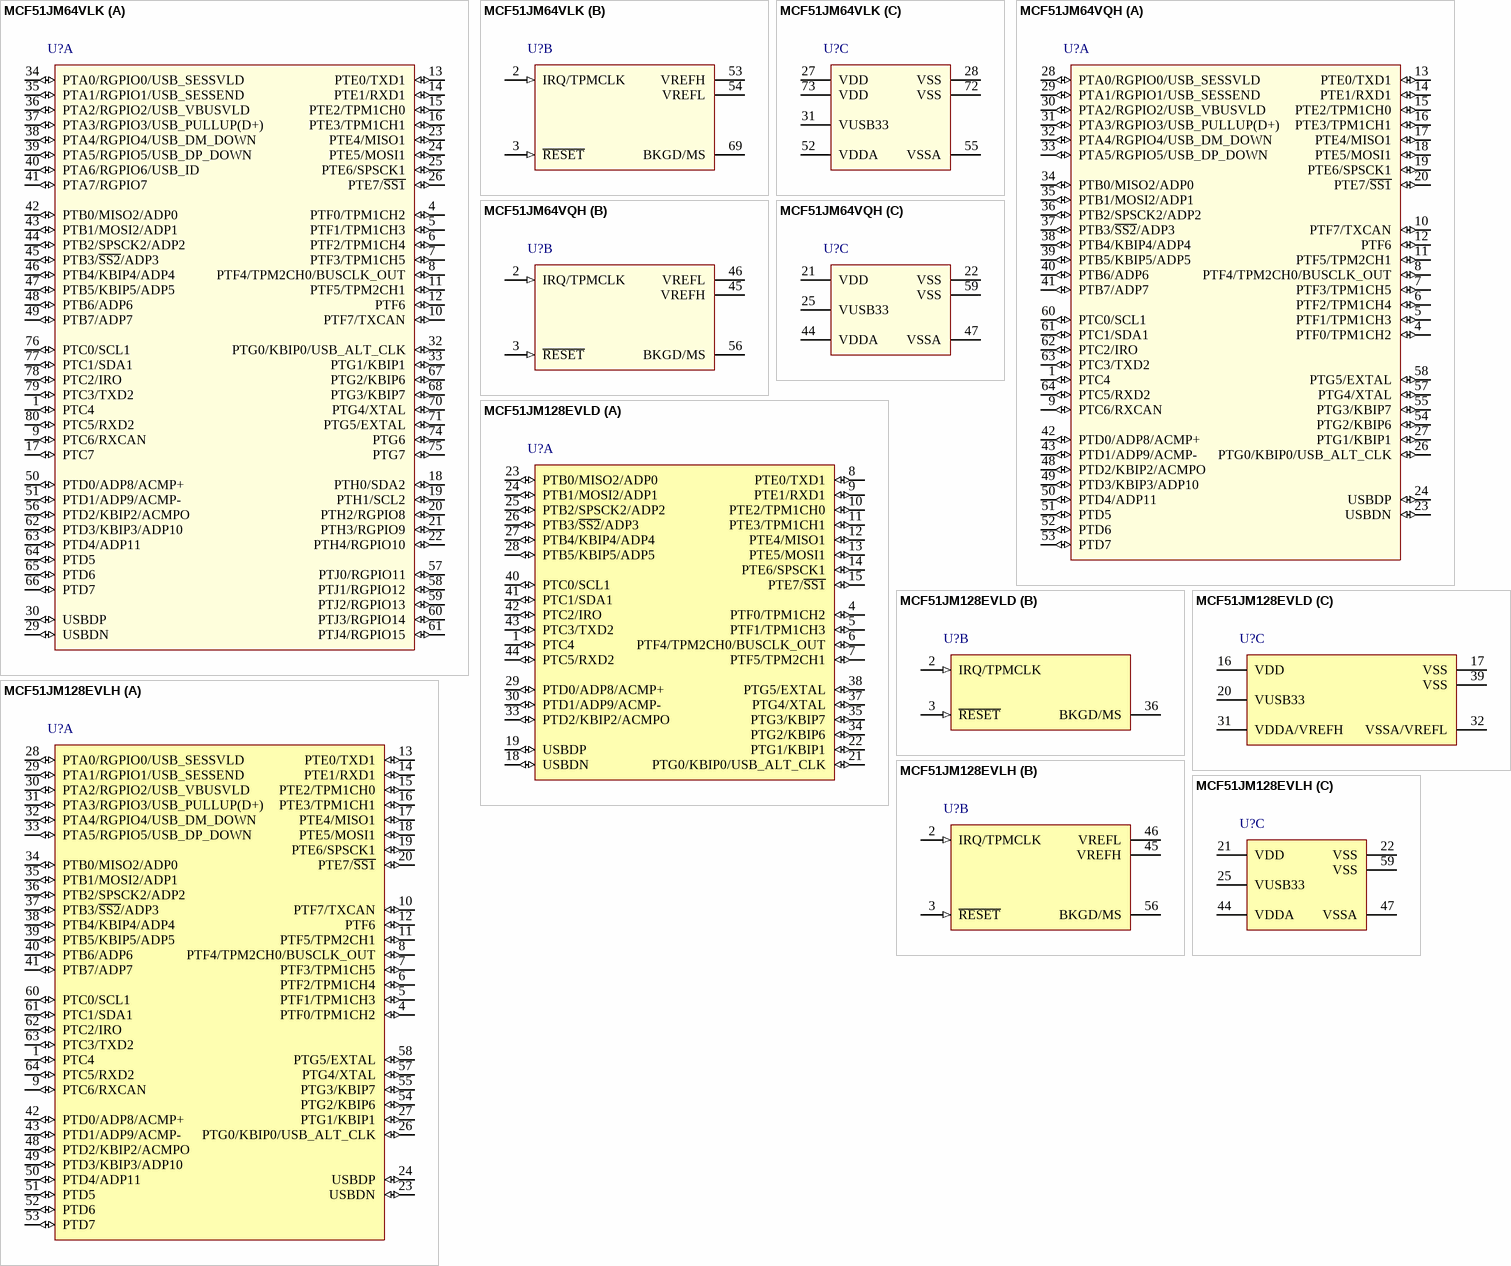
[diagram p11: symbols MCF51JM64VLK to MCF51JM128EVLH]

## MCF51JM64VLK
designator U?
MCF51JM64 ColdFire V1 Microcontroller, 32-Bit, 64KB Flash, 16KB SRAM, -40°C to 105°C, 80-Pin LQFP; DatasheetVersion: rev3, Jun-2009; PackageVersion: revC, May-2005; PackageReference: 1418-01; PackageDescription: 80-Pin Quad Flat Pack 0.65 mm Pitch; ComponentLink1Description: Manufacturer URL; ComponentLink1URL: http://www.freescale.com/; ComponentLink2Description: Datasheet; ComponentLink2URL: http://cache.freescale.com/files/32bit/doc/data_sheet/MCF51JM128.pdf?fpsp=1&WT_TYPE=Data%20Sheets&WT_VENDOR=FREESCALE&WT_FILE_FORMAT=pdf&WT_ASSET=Documentation
footprint 1418-01_N (QFP, 80-Leads, Body 14x14mm, Pitch 0.65mm, IPC Medium Density)
footprint 1418-01_L (QFP, 80-Leads, Body 14x14mm, Pitch 0.65mm, IPC High Density)
footprint 1418-01_M (QFP, 80-Leads, Body 14x14mm, Pitch 0.65mm, IPC Low Density)
part A pins: 1 PTC4 (io), 4 PTF0/TPM1CH2 (io), 5 PTF1/TPM1CH3 (io), 6 PTF2/TPM1CH4 (io), 7 PTF3/TPM1CH5 (io), 8 PTF4/TPM2CH0/BUSCLK_OUT (io), 9 PTC6/RXCAN (io), 10 PTF7/TXCAN (io), 11 PTF5/TPM2CH1 (io), 12 PTF6 (io), 13 PTE0/TXD1 (io), 14 PTE1/RXD1 (io), 15 PTE2/TPM1CH0 (io), 16 PTE3/TPM1CH1 (io), 17 PTC7 (io), 18 PTH0/SDA2 (io), 19 PTH1/SCL2 (io), 20 PTH2/RGPIO8 (io), 21 PTH3/RGPIO9 (io), 22 PTH4/RGPIO10 (io), 23 PTE4/MISO1 (io), 24 PTE5/MOSI1 (io), 25 PTE6/SPSCK1 (io), 26 PTE7/~{SS1} (io), 29 USBDN (io), 30 USBDP (io), 32 PTG0/KBIP0/USB_ALT_CLK (io), 33 PTG1/KBIP1 (io), 34 PTA0/RGPIO0/USB_SESSVLD (io), 35 PTA1/RGPIO1/USB_SESSEND (io), 36 PTA2/RGPIO2/USB_VBUSVLD (io), 37 PTA3/RGPIO3/USB_PULLUP(D+) (io), 38 PTA4/RGPIO4/USB_DM_DOWN (io), 39 PTA5/RGPIO5/USB_DP_DOWN (io), 40 PTA6/RGPIO6/USB_ID (io), 41 PTA7/RGPIO7 (io), 42 PTB0/MISO2/ADP0 (io), 43 PTB1/MOSI2/ADP1 (io), 44 PTB2/SPSCK2/ADP2 (io), 45 PTB3/~{SS2}/ADP3 (io), 46 PTB4/KBIP4/ADP4 (io), 47 PTB5/KBIP5/ADP5 (io), 48 PTB6/ADP6 (io), 49 PTB7/ADP7 (io), 50 PTD0/ADP8/ACMP+ (io), 51 PTD1/ADP9/ACMP- (io), 56 PTD2/KBIP2/ACMPO (io), 57 PTJ0/RGPIO11 (io), 58 PTJ1/RGPIO12 (io), 59 PTJ2/RGPIO13 (io), 60 PTJ3/RGPIO14 (io), 61 PTJ4/RGPIO15 (io), 62 PTD3/KBIP3/ADP10 (io), 63 PTD4/ADP11 (io), 64 PTD5 (io), 65 PTD6 (io), 66 PTD7 (io), 67 PTG2/KBIP6 (io), 68 PTG3/KBIP7 (io), 70 PTG4/XTAL (io), 71 PTG5/EXTAL (io), 74 PTG6 (io), 75 PTG7 (io), 76 PTC0/SCL1 (io), 77 PTC1/SDA1 (io), 78 PTC2/IRO (io), 79 PTC3/TXD2 (io), 80 PTC5/RXD2 (io)
part B pins: 2 IRQ/TPMCLK (in), 3 ~{RESET} (in), 53 VREFH (power), 54 VREFL (power), 69 BKGD/MS
part C pins: 27 VDD (power), 28 VSS (power), 31 VUSB33 (power), 52 VDDA (power), 55 VSSA (power), 72 VSS (power), 73 VDD (power)

## MCF51JM64VQH
designator U?
MCF51JM64 ColdFire V1 Microcontroller, 32-Bit, 64KB Flash, 16KB SRAM, -40°C to 105°C, 64-Pin QFP; DatasheetVersion: rev3, Jun-2009; PackageVersion: rev6, Mar-2011; PackageReference: 840B-02; PackageDescription: 64-Pin Quad Flat Pack, 14 x 14 mm Body, 0.8 mm Pitch; ComponentLink1Description: Manufacturer URL; ComponentLink1URL: http://www.freescale.com/; ComponentLink2Description: Datasheet; ComponentLink2URL: http://cache.freescale.com/files/32bit/doc/data_sheet/MCF51JM128.pdf?fpsp=1&WT_TYPE=Data%20Sheets&WT_VENDOR=FREESCALE&WT_FILE_FORMAT=pdf&WT_ASSET=Documentation
footprint 840B-02_N (QFP, 64-Leads, Body 14x14mm, Pitch 0.8mm, IPC Medium Density)
footprint 840B-02_L (QFP, 64-Leads, Body 14x14mm, Pitch 0.8mm, IPC High Density)
footprint 840B-02_M (QFP, 64-Leads, Body 14x14mm, Pitch 0.8mm, IPC Low Density)
part A pins: 1 PTC4 (io), 4 PTF0/TPM1CH2 (io), 5 PTF1/TPM1CH3 (io), 6 PTF2/TPM1CH4 (io), 7 PTF3/TPM1CH5 (io), 8 PTF4/TPM2CH0/BUSCLK_OUT (io), 9 PTC6/RXCAN (io), 10 PTF7/TXCAN (io), 11 PTF5/TPM2CH1 (io), 12 PTF6 (io), 13 PTE0/TXD1 (io), 14 PTE1/RXD1 (io), 15 PTE2/TPM1CH0 (io), 16 PTE3/TPM1CH1 (io), 17 PTE4/MISO1 (io), 18 PTE5/MOSI1 (io), 19 PTE6/SPSCK1 (io), 20 PTE7/~{SS1} (io), 23 USBDN (io), 24 USBDP (io), 26 PTG0/KBIP0/USB_ALT_CLK (io), 27 PTG1/KBIP1 (io), 28 PTA0/RGPIO0/USB_SESSVLD (io), 29 PTA1/RGPIO1/USB_SESSEND (io), 30 PTA2/RGPIO2/USB_VBUSVLD (io), 31 PTA3/RGPIO3/USB_PULLUP(D+) (io), 32 PTA4/RGPIO4/USB_DM_DOWN (io), 33 PTA5/RGPIO5/USB_DP_DOWN (io), 34 PTB0/MISO2/ADP0 (io), 35 PTB1/MOSI2/ADP1 (io), 36 PTB2/SPSCK2/ADP2 (io), 37 PTB3/~{SS2}/ADP3 (io), 38 PTB4/KBIP4/ADP4 (io), 39 PTB5/KBIP5/ADP5 (io), 40 PTB6/ADP6 (io), 41 PTB7/ADP7 (io), 42 PTD0/ADP8/ACMP+ (io), 43 PTD1/ADP9/ACMP- (io), 48 PTD2/KBIP2/ACMPO (io), 49 PTD3/KBIP3/ADP10 (io), 50 PTD4/ADP11 (io), 51 PTD5 (io), 52 PTD6 (io), 53 PTD7 (io), 54 PTG2/KBIP6 (io), 55 PTG3/KBIP7 (io), 57 PTG4/XTAL (io), 58 PTG5/EXTAL (io), 60 PTC0/SCL1 (io), 61 PTC1/SDA1 (io), 62 PTC2/IRO (io), 63 PTC3/TXD2 (io), 64 PTC5/RXD2 (io)
part B pins: 2 IRQ/TPMCLK (in), 3 ~{RESET} (in), 45 VREFH (power), 46 VREFL (power), 56 BKGD/MS
part C pins: 21 VDD (power), 22 VSS (power), 25 VUSB33 (power), 44 VDDA (power), 47 VSSA (power), 59 VSS (power)

## MCF51JM128EVLD
designator U?
MCF51JM128 ColdFire V1 Microcontroller with CAU and RNGA Enabled, 32-Bit, 128KB Flash, 16KB SRAM, -40°C to 105°C, 44-Pin LQFP; DatasheetVersion: rev3, Jun-2009; PackageVersion: rev3, Jun-2009; PackageReference: 824D-02; PackageDescription: 44-Pin Thin Quad Flat Pack, 10 x 10 mm Body, 0.8 mm Pitch; Code_JEDEC: MS-026-BCB; ComponentLink1Description: Manufacturer URL; ComponentLink1URL: http://www.freescale.com/; ComponentLink2Description: Datasheet; ComponentLink2URL: http://cache.freescale.com/files/32bit/doc/data_sheet/MCF51JM128.pdf?fpsp=1&WT_TYPE=Data%20Sheets&WT_VENDOR=FREESCALE&WT_FILE_FORMAT=pdf&WT_ASSET=Documentation; Supplier 1: Digi-Key; Supplier Part Number 1: MCF51JM128EVLD-ND
footprint 824D-02_N (Thin QFP, 44-Leads, Body 10x10mm, Pitch 0.8mm, IPC Medium Density)
footprint 824D-02_L (Thin QFP, 44-Leads, Body 10x10mm, Pitch 0.8mm, IPC High Density)
footprint 824D-02_M (Thin QFP, 44-Leads, Body 10x10mm, Pitch 0.8mm, IPC Low Density)
part A pins: 1 PTC4 (io), 4 PTF0/TPM1CH2 (io), 5 PTF1/TPM1CH3 (io), 6 PTF4/TPM2CH0/BUSCLK_OUT (io), 7 PTF5/TPM2CH1 (io), 8 PTE0/TXD1 (io), 9 PTE1/RXD1 (io), 10 PTE2/TPM1CH0 (io), 11 PTE3/TPM1CH1 (io), 12 PTE4/MISO1 (io), 13 PTE5/MOSI1 (io), 14 PTE6/SPSCK1 (io), 15 PTE7/~{SS1} (io), 18 USBDN (io), 19 USBDP (io), 21 PTG0/KBIP0/USB_ALT_CLK (io), 22 PTG1/KBIP1 (io), 23 PTB0/MISO2/ADP0 (io), 24 PTB1/MOSI2/ADP1 (io), 25 PTB2/SPSCK2/ADP2 (io), 26 PTB3/~{SS2}/ADP3 (io), 27 PTB4/KBIP4/ADP4 (io), 28 PTB5/KBIP5/ADP5 (io), 29 PTD0/ADP8/ACMP+ (io), 30 PTD1/ADP9/ACMP- (io), 33 PTD2/KBIP2/ACMPO (io), 34 PTG2/KBIP6 (io), 35 PTG3/KBIP7 (io), 37 PTG4/XTAL (io), 38 PTG5/EXTAL (io), 40 PTC0/SCL1 (io), 41 PTC1/SDA1 (io), 42 PTC2/IRO (io), 43 PTC3/TXD2 (io), 44 PTC5/RXD2 (io)
part B pins: 2 IRQ/TPMCLK (in), 3 ~{RESET} (in), 36 BKGD/MS
part C pins: 16 VDD (power), 17 VSS (power), 20 VUSB33 (power), 31 VDDA/VREFH (power), 32 VSSA/VREFL (power), 39 VSS (power)

## MCF51JM128EVLH
designator U?
MCF51JM128 ColdFire V1 Microcontroller with CAU and RNGA Enabled, 32-Bit, 128KB Flash, 16KB SRAM, -40°C to 105°C, 64-Pin LQFP; DatasheetVersion: rev3, Jun-2009; PackageVersion: rev6, Mar-2011; PackageReference: 840F-02; PackageDescription: 64-Pin Thin Quad Flat Pack, 10 x 10 mm Body, 0.5 mm Pitch; ComponentLink1Description: Manufacturer URL; ComponentLink1URL: http://www.freescale.com/; ComponentLink2Description: Datasheet; ComponentLink2URL: http://cache.freescale.com/files/32bit/doc/data_sheet/MCF51JM128.pdf?fpsp=1&WT_TYPE=Data%20Sheets&WT_VENDOR=FREESCALE&WT_FILE_FORMAT=pdf&WT_ASSET=Documentation; Supplier 1: Digi-Key; Supplier Part Number 1: MCF51JM128EVLH-ND
footprint 840F-02_N (Thin QFP, 64-Leads, Body 10x10mm, Pitch 0.5mm, IPC Medium Density)
footprint 840F-02_L (Thin QFP, 64-Leads, Body 10x10mm, Pitch 0.5mm, IPC High Density)
footprint 840F-02_M (Thin QFP, 64-Leads, Body 10x10mm, Pitch 0.5mm, IPC Low Density)
part A pins: 1 PTC4 (io), 4 PTF0/TPM1CH2 (io), 5 PTF1/TPM1CH3 (io), 6 PTF2/TPM1CH4 (io), 7 PTF3/TPM1CH5 (io), 8 PTF4/TPM2CH0/BUSCLK_OUT (io), 9 PTC6/RXCAN (io), 10 PTF7/TXCAN (io), 11 PTF5/TPM2CH1 (io), 12 PTF6 (io), 13 PTE0/TXD1 (io), 14 PTE1/RXD1 (io), 15 PTE2/TPM1CH0 (io), 16 PTE3/TPM1CH1 (io), 17 PTE4/MISO1 (io), 18 PTE5/MOSI1 (io), 19 PTE6/SPSCK1 (io), 20 PTE7/~{SS1} (io), 23 USBDN (io), 24 USBDP (io), 26 PTG0/KBIP0/USB_ALT_CLK (io), 27 PTG1/KBIP1 (io), 28 PTA0/RGPIO0/USB_SESSVLD (io), 29 PTA1/RGPIO1/USB_SESSEND (io), 30 PTA2/RGPIO2/USB_VBUSVLD (io), 31 PTA3/RGPIO3/USB_PULLUP(D+) (io), 32 PTA4/RGPIO4/USB_DM_DOWN (io), 33 PTA5/RGPIO5/USB_DP_DOWN (io), 34 PTB0/MISO2/ADP0 (io), 35 PTB1/MOSI2/ADP1 (io), 36 PTB2/SPSCK2/ADP2 (io), 37 PTB3/~{SS2}/ADP3 (io), 38 PTB4/KBIP4/ADP4 (io), 39 PTB5/KBIP5/ADP5 (io), 40 PTB6/ADP6 (io), 41 PTB7/ADP7 (io), 42 PTD0/ADP8/ACMP+ (io), 43 PTD1/ADP9/ACMP- (io), 48 PTD2/KBIP2/ACMPO (io), 49 PTD3/KBIP3/ADP10 (io), 50 PTD4/ADP11 (io), 51 PTD5 (io), 52 PTD6 (io), 53 PTD7 (io), 54 PTG2/KBIP6 (io), 55 PTG3/KBIP7 (io), 57 PTG4/XTAL (io), 58 PTG5/EXTAL (io), 60 PTC0/SCL1 (io), 61 PTC1/SDA1 (io), 62 PTC2/IRO (io), 63 PTC3/TXD2 (io), 64 PTC5/RXD2 (io)
part B pins: 2 IRQ/TPMCLK (in), 3 ~{RESET} (in), 45 VREFH (power), 46 VREFL (power), 56 BKGD/MS
part C pins: 21 VDD (power), 22 VSS (power), 25 VUSB33 (power), 44 VDDA (power), 47 VSSA (power), 59 VSS (power)

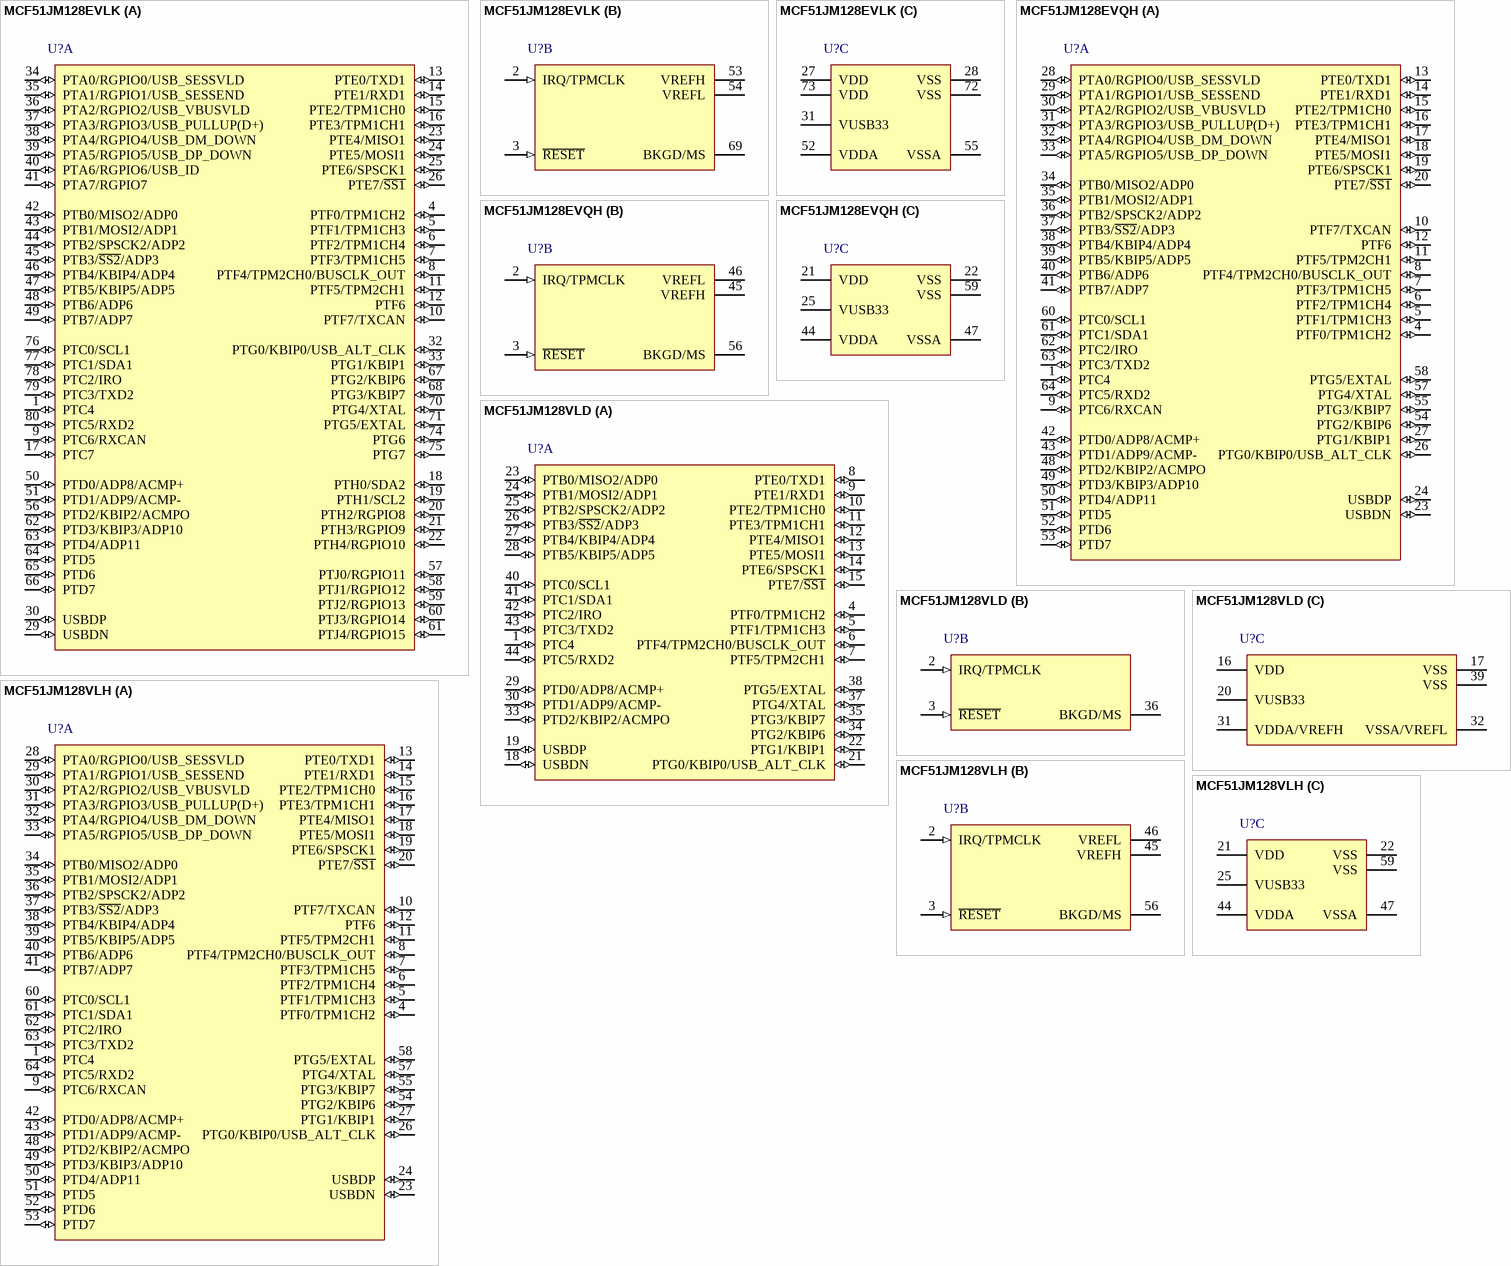
[diagram p12: symbols MCF51JM128EVLK to MCF51JM128VLH]

## MCF51JM128EVLK
designator U?
MCF51JM128 ColdFire V1 Microcontroller with CAU and RNGA Enabled, 32-Bit, 128KB Flash, 16KB SRAM, -40°C to 105°C, 80-Pin LQFP; DatasheetVersion: rev3, Jun-2009; PackageVersion: revC, May-2005; PackageReference: 1418-01; PackageDescription: 80-Pin Quad Flat Pack 0.65 mm Pitch; ComponentLink1Description: Manufacturer URL; ComponentLink1URL: http://www.freescale.com/; ComponentLink2Description: Datasheet; ComponentLink2URL: http://cache.freescale.com/files/32bit/doc/data_sheet/MCF51JM128.pdf?fpsp=1&WT_TYPE=Data%20Sheets&WT_VENDOR=FREESCALE&WT_FILE_FORMAT=pdf&WT_ASSET=Documentation; Supplier 1: Digi-Key; Supplier Part Number 1: MCF51JM128EVLK-ND
footprint 1418-01_N (QFP, 80-Leads, Body 14x14mm, Pitch 0.65mm, IPC Medium Density)
footprint 1418-01_L (QFP, 80-Leads, Body 14x14mm, Pitch 0.65mm, IPC High Density)
footprint 1418-01_M (QFP, 80-Leads, Body 14x14mm, Pitch 0.65mm, IPC Low Density)
part A pins: 1 PTC4 (io), 4 PTF0/TPM1CH2 (io), 5 PTF1/TPM1CH3 (io), 6 PTF2/TPM1CH4 (io), 7 PTF3/TPM1CH5 (io), 8 PTF4/TPM2CH0/BUSCLK_OUT (io), 9 PTC6/RXCAN (io), 10 PTF7/TXCAN (io), 11 PTF5/TPM2CH1 (io), 12 PTF6 (io), 13 PTE0/TXD1 (io), 14 PTE1/RXD1 (io), 15 PTE2/TPM1CH0 (io), 16 PTE3/TPM1CH1 (io), 17 PTC7 (io), 18 PTH0/SDA2 (io), 19 PTH1/SCL2 (io), 20 PTH2/RGPIO8 (io), 21 PTH3/RGPIO9 (io), 22 PTH4/RGPIO10 (io), 23 PTE4/MISO1 (io), 24 PTE5/MOSI1 (io), 25 PTE6/SPSCK1 (io), 26 PTE7/~{SS1} (io), 29 USBDN (io), 30 USBDP (io), 32 PTG0/KBIP0/USB_ALT_CLK (io), 33 PTG1/KBIP1 (io), 34 PTA0/RGPIO0/USB_SESSVLD (io), 35 PTA1/RGPIO1/USB_SESSEND (io), 36 PTA2/RGPIO2/USB_VBUSVLD (io), 37 PTA3/RGPIO3/USB_PULLUP(D+) (io), 38 PTA4/RGPIO4/USB_DM_DOWN (io), 39 PTA5/RGPIO5/USB_DP_DOWN (io), 40 PTA6/RGPIO6/USB_ID (io), 41 PTA7/RGPIO7 (io), 42 PTB0/MISO2/ADP0 (io), 43 PTB1/MOSI2/ADP1 (io), 44 PTB2/SPSCK2/ADP2 (io), 45 PTB3/~{SS2}/ADP3 (io), 46 PTB4/KBIP4/ADP4 (io), 47 PTB5/KBIP5/ADP5 (io), 48 PTB6/ADP6 (io), 49 PTB7/ADP7 (io), 50 PTD0/ADP8/ACMP+ (io), 51 PTD1/ADP9/ACMP- (io), 56 PTD2/KBIP2/ACMPO (io), 57 PTJ0/RGPIO11 (io), 58 PTJ1/RGPIO12 (io), 59 PTJ2/RGPIO13 (io), 60 PTJ3/RGPIO14 (io), 61 PTJ4/RGPIO15 (io), 62 PTD3/KBIP3/ADP10 (io), 63 PTD4/ADP11 (io), 64 PTD5 (io), 65 PTD6 (io), 66 PTD7 (io), 67 PTG2/KBIP6 (io), 68 PTG3/KBIP7 (io), 70 PTG4/XTAL (io), 71 PTG5/EXTAL (io), 74 PTG6 (io), 75 PTG7 (io), 76 PTC0/SCL1 (io), 77 PTC1/SDA1 (io), 78 PTC2/IRO (io), 79 PTC3/TXD2 (io), 80 PTC5/RXD2 (io)
part B pins: 2 IRQ/TPMCLK (in), 3 ~{RESET} (in), 53 VREFH (power), 54 VREFL (power), 69 BKGD/MS
part C pins: 27 VDD (power), 28 VSS (power), 31 VUSB33 (power), 52 VDDA (power), 55 VSSA (power), 72 VSS (power), 73 VDD (power)

## MCF51JM128EVQH
designator U?
MCF51JM128 ColdFire V1 Microcontroller with CAU and RNGA Enabled, 32-Bit, 128KB Flash, 16KB SRAM, -40°C to 105°C, 64-Pin QFP; DatasheetVersion: rev3, Jun-2009; PackageVersion: rev6, Mar-2011; PackageReference: 840B-02; PackageDescription: 64-Pin Quad Flat Pack, 14 x 14 mm Body, 0.8 mm Pitch; ComponentLink1Description: Manufacturer URL; ComponentLink1URL: http://www.freescale.com/; ComponentLink2Description: Datasheet; ComponentLink2URL: http://cache.freescale.com/files/32bit/doc/data_sheet/MCF51JM128.pdf?fpsp=1&WT_TYPE=Data%20Sheets&WT_VENDOR=FREESCALE&WT_FILE_FORMAT=pdf&WT_ASSET=Documentation; Supplier 1: Digi-Key; Supplier Part Number 1: MCF51JM128EVQH-ND
footprint 840B-02_N (QFP, 64-Leads, Body 14x14mm, Pitch 0.8mm, IPC Medium Density)
footprint 840B-02_L (QFP, 64-Leads, Body 14x14mm, Pitch 0.8mm, IPC High Density)
footprint 840B-02_M (QFP, 64-Leads, Body 14x14mm, Pitch 0.8mm, IPC Low Density)
part A pins: 1 PTC4 (io), 4 PTF0/TPM1CH2 (io), 5 PTF1/TPM1CH3 (io), 6 PTF2/TPM1CH4 (io), 7 PTF3/TPM1CH5 (io), 8 PTF4/TPM2CH0/BUSCLK_OUT (io), 9 PTC6/RXCAN (io), 10 PTF7/TXCAN (io), 11 PTF5/TPM2CH1 (io), 12 PTF6 (io), 13 PTE0/TXD1 (io), 14 PTE1/RXD1 (io), 15 PTE2/TPM1CH0 (io), 16 PTE3/TPM1CH1 (io), 17 PTE4/MISO1 (io), 18 PTE5/MOSI1 (io), 19 PTE6/SPSCK1 (io), 20 PTE7/~{SS1} (io), 23 USBDN (io), 24 USBDP (io), 26 PTG0/KBIP0/USB_ALT_CLK (io), 27 PTG1/KBIP1 (io), 28 PTA0/RGPIO0/USB_SESSVLD (io), 29 PTA1/RGPIO1/USB_SESSEND (io), 30 PTA2/RGPIO2/USB_VBUSVLD (io), 31 PTA3/RGPIO3/USB_PULLUP(D+) (io), 32 PTA4/RGPIO4/USB_DM_DOWN (io), 33 PTA5/RGPIO5/USB_DP_DOWN (io), 34 PTB0/MISO2/ADP0 (io), 35 PTB1/MOSI2/ADP1 (io), 36 PTB2/SPSCK2/ADP2 (io), 37 PTB3/~{SS2}/ADP3 (io), 38 PTB4/KBIP4/ADP4 (io), 39 PTB5/KBIP5/ADP5 (io), 40 PTB6/ADP6 (io), 41 PTB7/ADP7 (io), 42 PTD0/ADP8/ACMP+ (io), 43 PTD1/ADP9/ACMP- (io), 48 PTD2/KBIP2/ACMPO (io), 49 PTD3/KBIP3/ADP10 (io), 50 PTD4/ADP11 (io), 51 PTD5 (io), 52 PTD6 (io), 53 PTD7 (io), 54 PTG2/KBIP6 (io), 55 PTG3/KBIP7 (io), 57 PTG4/XTAL (io), 58 PTG5/EXTAL (io), 60 PTC0/SCL1 (io), 61 PTC1/SDA1 (io), 62 PTC2/IRO (io), 63 PTC3/TXD2 (io), 64 PTC5/RXD2 (io)
part B pins: 2 IRQ/TPMCLK (in), 3 ~{RESET} (in), 45 VREFH (power), 46 VREFL (power), 56 BKGD/MS
part C pins: 21 VDD (power), 22 VSS (power), 25 VUSB33 (power), 44 VDDA (power), 47 VSSA (power), 59 VSS (power)

## MCF51JM128VLD
designator U?
MCF51JM128 ColdFire V1 Microcontroller, 32-Bit, 128KB Flash, 16KB SRAM, -40°C to 105°C, 44-Pin LQFP; DatasheetVersion: rev3, Jun-2009; PackageVersion: rev3, Jun-2009; PackageReference: 824D-02; PackageDescription: 44-Pin Thin Quad Flat Pack, 10 x 10 mm Body, 0.8 mm Pitch; Code_JEDEC: MS-026-BCB; ComponentLink1Description: Manufacturer URL; ComponentLink1URL: http://www.freescale.com/; ComponentLink2Description: Datasheet; ComponentLink2URL: http://cache.freescale.com/files/32bit/doc/data_sheet/MCF51JM128.pdf?fpsp=1&WT_TYPE=Data%20Sheets&WT_VENDOR=FREESCALE&WT_FILE_FORMAT=pdf&WT_ASSET=Documentation; Supplier 1: Digi-Key; Supplier Part Number 1: MCF51JM128VLD-ND
footprint 824D-02_N (Thin QFP, 44-Leads, Body 10x10mm, Pitch 0.8mm, IPC Medium Density)
footprint 824D-02_L (Thin QFP, 44-Leads, Body 10x10mm, Pitch 0.8mm, IPC High Density)
footprint 824D-02_M (Thin QFP, 44-Leads, Body 10x10mm, Pitch 0.8mm, IPC Low Density)
part A pins: 1 PTC4 (io), 4 PTF0/TPM1CH2 (io), 5 PTF1/TPM1CH3 (io), 6 PTF4/TPM2CH0/BUSCLK_OUT (io), 7 PTF5/TPM2CH1 (io), 8 PTE0/TXD1 (io), 9 PTE1/RXD1 (io), 10 PTE2/TPM1CH0 (io), 11 PTE3/TPM1CH1 (io), 12 PTE4/MISO1 (io), 13 PTE5/MOSI1 (io), 14 PTE6/SPSCK1 (io), 15 PTE7/~{SS1} (io), 18 USBDN (io), 19 USBDP (io), 21 PTG0/KBIP0/USB_ALT_CLK (io), 22 PTG1/KBIP1 (io), 23 PTB0/MISO2/ADP0 (io), 24 PTB1/MOSI2/ADP1 (io), 25 PTB2/SPSCK2/ADP2 (io), 26 PTB3/~{SS2}/ADP3 (io), 27 PTB4/KBIP4/ADP4 (io), 28 PTB5/KBIP5/ADP5 (io), 29 PTD0/ADP8/ACMP+ (io), 30 PTD1/ADP9/ACMP- (io), 33 PTD2/KBIP2/ACMPO (io), 34 PTG2/KBIP6 (io), 35 PTG3/KBIP7 (io), 37 PTG4/XTAL (io), 38 PTG5/EXTAL (io), 40 PTC0/SCL1 (io), 41 PTC1/SDA1 (io), 42 PTC2/IRO (io), 43 PTC3/TXD2 (io), 44 PTC5/RXD2 (io)
part B pins: 2 IRQ/TPMCLK (in), 3 ~{RESET} (in), 36 BKGD/MS
part C pins: 16 VDD (power), 17 VSS (power), 20 VUSB33 (power), 31 VDDA/VREFH (power), 32 VSSA/VREFL (power), 39 VSS (power)

## MCF51JM128VLH
designator U?
MCF51JM128 ColdFire V1 Microcontroller, 32-Bit, 128KB Flash, 16KB SRAM, -40°C to 105°C, 64-Pin LQFP; DatasheetVersion: rev3, Jun-2009; PackageVersion: rev6, Mar-2011; PackageReference: 840F-02; PackageDescription: 64-Pin Thin Quad Flat Pack, 10 x 10 mm Body, 0.5 mm Pitch; ComponentLink1Description: Manufacturer URL; ComponentLink1URL: http://www.freescale.com/; ComponentLink2Description: Datasheet; ComponentLink2URL: http://cache.freescale.com/files/32bit/doc/data_sheet/MCF51JM128.pdf?fpsp=1&WT_TYPE=Data%20Sheets&WT_VENDOR=FREESCALE&WT_FILE_FORMAT=pdf&WT_ASSET=Documentation; Supplier 1: Digi-Key; Supplier Part Number 1: MCF51JM128VLH-ND
footprint 840F-02_N (Thin QFP, 64-Leads, Body 10x10mm, Pitch 0.5mm, IPC Medium Density)
footprint 840F-02_L (Thin QFP, 64-Leads, Body 10x10mm, Pitch 0.5mm, IPC High Density)
footprint 840F-02_M (Thin QFP, 64-Leads, Body 10x10mm, Pitch 0.5mm, IPC Low Density)
part A pins: 1 PTC4 (io), 4 PTF0/TPM1CH2 (io), 5 PTF1/TPM1CH3 (io), 6 PTF2/TPM1CH4 (io), 7 PTF3/TPM1CH5 (io), 8 PTF4/TPM2CH0/BUSCLK_OUT (io), 9 PTC6/RXCAN (io), 10 PTF7/TXCAN (io), 11 PTF5/TPM2CH1 (io), 12 PTF6 (io), 13 PTE0/TXD1 (io), 14 PTE1/RXD1 (io), 15 PTE2/TPM1CH0 (io), 16 PTE3/TPM1CH1 (io), 17 PTE4/MISO1 (io), 18 PTE5/MOSI1 (io), 19 PTE6/SPSCK1 (io), 20 PTE7/~{SS1} (io), 23 USBDN (io), 24 USBDP (io), 26 PTG0/KBIP0/USB_ALT_CLK (io), 27 PTG1/KBIP1 (io), 28 PTA0/RGPIO0/USB_SESSVLD (io), 29 PTA1/RGPIO1/USB_SESSEND (io), 30 PTA2/RGPIO2/USB_VBUSVLD (io), 31 PTA3/RGPIO3/USB_PULLUP(D+) (io), 32 PTA4/RGPIO4/USB_DM_DOWN (io), 33 PTA5/RGPIO5/USB_DP_DOWN (io), 34 PTB0/MISO2/ADP0 (io), 35 PTB1/MOSI2/ADP1 (io), 36 PTB2/SPSCK2/ADP2 (io), 37 PTB3/~{SS2}/ADP3 (io), 38 PTB4/KBIP4/ADP4 (io), 39 PTB5/KBIP5/ADP5 (io), 40 PTB6/ADP6 (io), 41 PTB7/ADP7 (io), 42 PTD0/ADP8/ACMP+ (io), 43 PTD1/ADP9/ACMP- (io), 48 PTD2/KBIP2/ACMPO (io), 49 PTD3/KBIP3/ADP10 (io), 50 PTD4/ADP11 (io), 51 PTD5 (io), 52 PTD6 (io), 53 PTD7 (io), 54 PTG2/KBIP6 (io), 55 PTG3/KBIP7 (io), 57 PTG4/XTAL (io), 58 PTG5/EXTAL (io), 60 PTC0/SCL1 (io), 61 PTC1/SDA1 (io), 62 PTC2/IRO (io), 63 PTC3/TXD2 (io), 64 PTC5/RXD2 (io)
part B pins: 2 IRQ/TPMCLK (in), 3 ~{RESET} (in), 45 VREFH (power), 46 VREFL (power), 56 BKGD/MS
part C pins: 21 VDD (power), 22 VSS (power), 25 VUSB33 (power), 44 VDDA (power), 47 VSSA (power), 59 VSS (power)

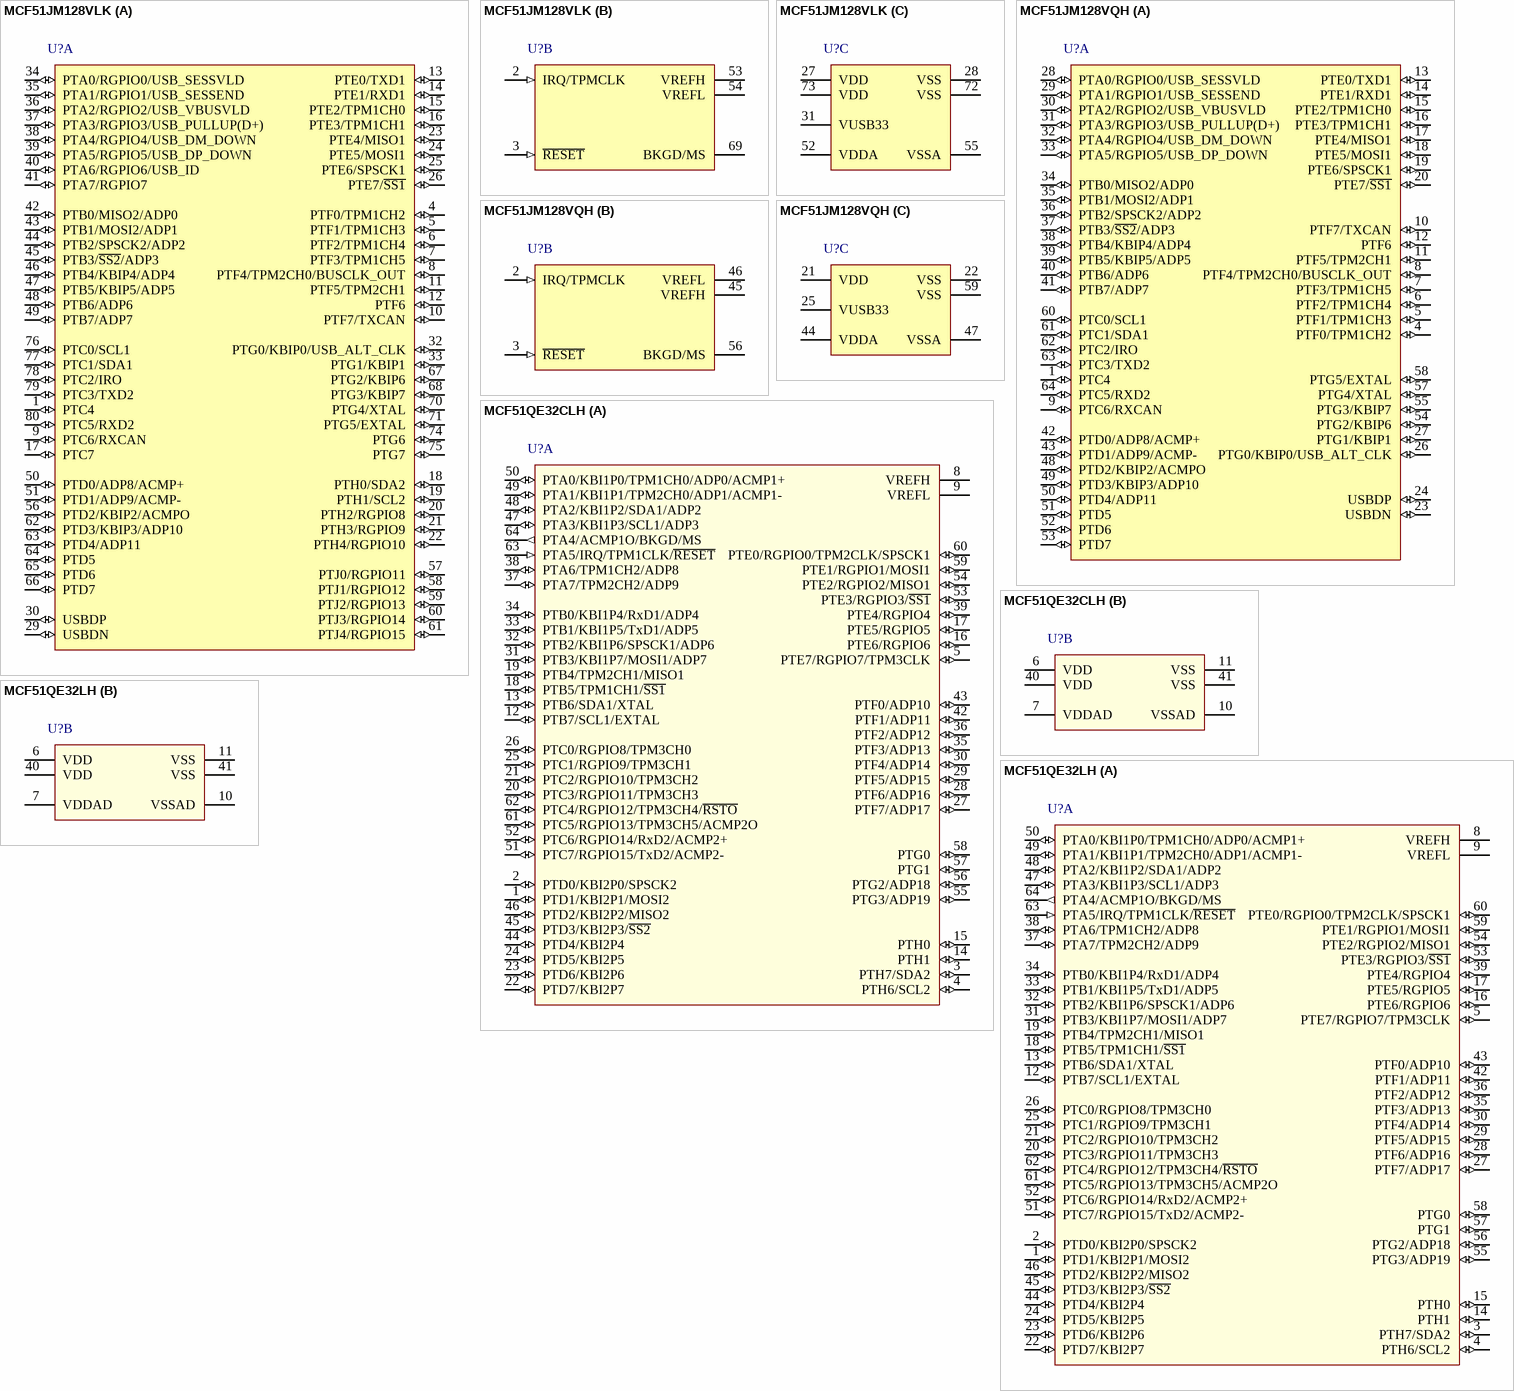
[diagram p13: symbols MCF51JM128VLK to MCF51QE32LH]

## MCF51JM128VLK
designator U?
MCF51JM128 ColdFire V1 Microcontroller, 32-Bit, 128KB Flash, 16KB SRAM, -40°C to 105°C, 80-Pin LQFP; DatasheetVersion: rev3, Jun-2009; PackageVersion: revC, May-2005; PackageReference: 1418-01; PackageDescription: 80-Pin Quad Flat Pack 0.65 mm Pitch; ComponentLink1Description: Manufacturer URL; ComponentLink1URL: http://www.freescale.com/; ComponentLink2Description: Datasheet; ComponentLink2URL: http://cache.freescale.com/files/32bit/doc/data_sheet/MCF51JM128.pdf?fpsp=1&WT_TYPE=Data%20Sheets&WT_VENDOR=FREESCALE&WT_FILE_FORMAT=pdf&WT_ASSET=Documentation; Supplier 1: Digi-Key; Supplier Part Number 1: MCF51JM128VLK-ND
footprint 1418-01_N (QFP, 80-Leads, Body 14x14mm, Pitch 0.65mm, IPC Medium Density)
footprint 1418-01_L (QFP, 80-Leads, Body 14x14mm, Pitch 0.65mm, IPC High Density)
footprint 1418-01_M (QFP, 80-Leads, Body 14x14mm, Pitch 0.65mm, IPC Low Density)
part A pins: 1 PTC4 (io), 4 PTF0/TPM1CH2 (io), 5 PTF1/TPM1CH3 (io), 6 PTF2/TPM1CH4 (io), 7 PTF3/TPM1CH5 (io), 8 PTF4/TPM2CH0/BUSCLK_OUT (io), 9 PTC6/RXCAN (io), 10 PTF7/TXCAN (io), 11 PTF5/TPM2CH1 (io), 12 PTF6 (io), 13 PTE0/TXD1 (io), 14 PTE1/RXD1 (io), 15 PTE2/TPM1CH0 (io), 16 PTE3/TPM1CH1 (io), 17 PTC7 (io), 18 PTH0/SDA2 (io), 19 PTH1/SCL2 (io), 20 PTH2/RGPIO8 (io), 21 PTH3/RGPIO9 (io), 22 PTH4/RGPIO10 (io), 23 PTE4/MISO1 (io), 24 PTE5/MOSI1 (io), 25 PTE6/SPSCK1 (io), 26 PTE7/~{SS1} (io), 29 USBDN (io), 30 USBDP (io), 32 PTG0/KBIP0/USB_ALT_CLK (io), 33 PTG1/KBIP1 (io), 34 PTA0/RGPIO0/USB_SESSVLD (io), 35 PTA1/RGPIO1/USB_SESSEND (io), 36 PTA2/RGPIO2/USB_VBUSVLD (io), 37 PTA3/RGPIO3/USB_PULLUP(D+) (io), 38 PTA4/RGPIO4/USB_DM_DOWN (io), 39 PTA5/RGPIO5/USB_DP_DOWN (io), 40 PTA6/RGPIO6/USB_ID (io), 41 PTA7/RGPIO7 (io), 42 PTB0/MISO2/ADP0 (io), 43 PTB1/MOSI2/ADP1 (io), 44 PTB2/SPSCK2/ADP2 (io), 45 PTB3/~{SS2}/ADP3 (io), 46 PTB4/KBIP4/ADP4 (io), 47 PTB5/KBIP5/ADP5 (io), 48 PTB6/ADP6 (io), 49 PTB7/ADP7 (io), 50 PTD0/ADP8/ACMP+ (io), 51 PTD1/ADP9/ACMP- (io), 56 PTD2/KBIP2/ACMPO (io), 57 PTJ0/RGPIO11 (io), 58 PTJ1/RGPIO12 (io), 59 PTJ2/RGPIO13 (io), 60 PTJ3/RGPIO14 (io), 61 PTJ4/RGPIO15 (io), 62 PTD3/KBIP3/ADP10 (io), 63 PTD4/ADP11 (io), 64 PTD5 (io), 65 PTD6 (io), 66 PTD7 (io), 67 PTG2/KBIP6 (io), 68 PTG3/KBIP7 (io), 70 PTG4/XTAL (io), 71 PTG5/EXTAL (io), 74 PTG6 (io), 75 PTG7 (io), 76 PTC0/SCL1 (io), 77 PTC1/SDA1 (io), 78 PTC2/IRO (io), 79 PTC3/TXD2 (io), 80 PTC5/RXD2 (io)
part B pins: 2 IRQ/TPMCLK (in), 3 ~{RESET} (in), 53 VREFH (power), 54 VREFL (power), 69 BKGD/MS
part C pins: 27 VDD (power), 28 VSS (power), 31 VUSB33 (power), 52 VDDA (power), 55 VSSA (power), 72 VSS (power), 73 VDD (power)

## MCF51JM128VQH
designator U?
MCF51JM128 ColdFire V1 Microcontroller, 32-Bit, 128KB Flash, 16KB SRAM, -40°C to 105°C, 64-Pin QFP; DatasheetVersion: rev3, Jun-2009; PackageVersion: rev6, Mar-2011; PackageReference: 840B-02; PackageDescription: 64-Pin Quad Flat Pack, 14 x 14 mm Body, 0.8 mm Pitch; ComponentLink1Description: Manufacturer URL; ComponentLink1URL: http://www.freescale.com/; ComponentLink2Description: Datasheet; ComponentLink2URL: http://cache.freescale.com/files/32bit/doc/data_sheet/MCF51JM128.pdf?fpsp=1&WT_TYPE=Data%20Sheets&WT_VENDOR=FREESCALE&WT_FILE_FORMAT=pdf&WT_ASSET=Documentation; Supplier 1: Digi-Key; Supplier Part Number 1: MCF51JM128VQH-ND
footprint 840B-02_N (QFP, 64-Leads, Body 14x14mm, Pitch 0.8mm, IPC Medium Density)
footprint 840B-02_L (QFP, 64-Leads, Body 14x14mm, Pitch 0.8mm, IPC High Density)
footprint 840B-02_M (QFP, 64-Leads, Body 14x14mm, Pitch 0.8mm, IPC Low Density)
part A pins: 1 PTC4 (io), 4 PTF0/TPM1CH2 (io), 5 PTF1/TPM1CH3 (io), 6 PTF2/TPM1CH4 (io), 7 PTF3/TPM1CH5 (io), 8 PTF4/TPM2CH0/BUSCLK_OUT (io), 9 PTC6/RXCAN (io), 10 PTF7/TXCAN (io), 11 PTF5/TPM2CH1 (io), 12 PTF6 (io), 13 PTE0/TXD1 (io), 14 PTE1/RXD1 (io), 15 PTE2/TPM1CH0 (io), 16 PTE3/TPM1CH1 (io), 17 PTE4/MISO1 (io), 18 PTE5/MOSI1 (io), 19 PTE6/SPSCK1 (io), 20 PTE7/~{SS1} (io), 23 USBDN (io), 24 USBDP (io), 26 PTG0/KBIP0/USB_ALT_CLK (io), 27 PTG1/KBIP1 (io), 28 PTA0/RGPIO0/USB_SESSVLD (io), 29 PTA1/RGPIO1/USB_SESSEND (io), 30 PTA2/RGPIO2/USB_VBUSVLD (io), 31 PTA3/RGPIO3/USB_PULLUP(D+) (io), 32 PTA4/RGPIO4/USB_DM_DOWN (io), 33 PTA5/RGPIO5/USB_DP_DOWN (io), 34 PTB0/MISO2/ADP0 (io), 35 PTB1/MOSI2/ADP1 (io), 36 PTB2/SPSCK2/ADP2 (io), 37 PTB3/~{SS2}/ADP3 (io), 38 PTB4/KBIP4/ADP4 (io), 39 PTB5/KBIP5/ADP5 (io), 40 PTB6/ADP6 (io), 41 PTB7/ADP7 (io), 42 PTD0/ADP8/ACMP+ (io), 43 PTD1/ADP9/ACMP- (io), 48 PTD2/KBIP2/ACMPO (io), 49 PTD3/KBIP3/ADP10 (io), 50 PTD4/ADP11 (io), 51 PTD5 (io), 52 PTD6 (io), 53 PTD7 (io), 54 PTG2/KBIP6 (io), 55 PTG3/KBIP7 (io), 57 PTG4/XTAL (io), 58 PTG5/EXTAL (io), 60 PTC0/SCL1 (io), 61 PTC1/SDA1 (io), 62 PTC2/IRO (io), 63 PTC3/TXD2 (io), 64 PTC5/RXD2 (io)
part B pins: 2 IRQ/TPMCLK (in), 3 ~{RESET} (in), 45 VREFH (power), 46 VREFL (power), 56 BKGD/MS
part C pins: 21 VDD (power), 22 VSS (power), 25 VUSB33 (power), 44 VDDA (power), 47 VSSA (power), 59 VSS (power)

## MCF51QE32CLH
designator U?
MCF51QE32 ColdFire V1 Microcontroller, 32-Bit, 32KB Flash, 8KB RAM, -40°C to 85°C, 64-Pin LQFP; DatasheetVersion: rev7, Oct-2008; PackageVersion: rev6, Mar-2011; PackageReference: 840F-02; PackageDescription: 64-Pin Thin Quad Flat Pack, 10 x 10 mm Body, 0.5 mm Pitch; ComponentLink1Description: Manufacturer URL; ComponentLink1URL: http://www.freescale.com/; ComponentLink2Description: Datasheet; ComponentLink2URL: http://cache.freescale.com/files/32bit/doc/data_sheet/MCF51QE128.pdf?fpsp=1&WT_TYPE=Data%20Sheets&WT_VENDOR=FREESCALE&WT_FILE_FORMAT=pdf&WT_ASSET=Documentation
footprint 840F-02_N (Thin QFP, 64-Leads, Body 10x10mm, Pitch 0.5mm, IPC Medium Density)
footprint 840F-02_L (Thin QFP, 64-Leads, Body 10x10mm, Pitch 0.5mm, IPC High Density)
footprint 840F-02_M (Thin QFP, 64-Leads, Body 10x10mm, Pitch 0.5mm, IPC Low Density)
part A pins: 1 PTD1/KBI2P1/MOSI2 (io), 2 PTD0/KBI2P0/SPSCK2 (io), 3 PTH7/SDA2 (io), 4 PTH6/SCL2 (io), 5 PTE7/RGPIO7/TPM3CLK (io), 8 VREFH, 9 VREFL, 12 PTB7/SCL1/EXTAL (io), 13 PTB6/SDA1/XTAL (io), 14 PTH1 (io), 15 PTH0 (io), 16 PTE6/RGPIO6 (io), 17 PTE5/RGPIO5 (io), 18 PTB5/TPM1CH1/~{SS1} (io), 19 PTB4/TPM2CH1/MISO1 (io), 20 PTC3/RGPIO11/TPM3CH3 (io), 21 PTC2/RGPIO10/TPM3CH2 (io), 22 PTD7/KBI2P7 (io), 23 PTD6/KBI2P6 (io), 24 PTD5/KBI2P5 (io), 25 PTC1/RGPIO9/TPM3CH1 (io), 26 PTC0/RGPIO8/TPM3CH0 (io), 27 PTF7/ADP17 (io), 28 PTF6/ADP16 (io), 29 PTF5/ADP15 (io), 30 PTF4/ADP14 (io), 31 PTB3/KBI1P7/MOSI1/ADP7 (io), 32 PTB2/KBI1P6/SPSCK1/ADP6 (io), 33 PTB1/KBI1P5/TxD1/ADP5 (io), 34 PTB0/KBI1P4/RxD1/ADP4 (io), 35 PTF3/ADP13 (io), 36 PTF2/ADP12 (io), 37 PTA7/TPM2CH2/ADP9 (io), 38 PTA6/TPM1CH2/ADP8 (io), 39 PTE4/RGPIO4 (io), 42 PTF1/ADP11 (io), 43 PTF0/ADP10 (io), 44 PTD4/KBI2P4 (io), 45 PTD3/KBI2P3/~{SS2} (io), 46 PTD2/KBI2P2/MISO2 (io), 47 PTA3/KBI1P3/SCL1/ADP3 (io), 48 PTA2/KBI1P2/SDA1/ADP2 (io), 49 PTA1/KBI1P1/TPM2CH0/ADP1/ACMP1- (io), 50 PTA0/KBI1P0/TPM1CH0/ADP0/ACMP1+ (io), 51 PTC7/RGPIO15/TxD2/ACMP2- (io), 52 PTC6/RGPIO14/RxD2/ACMP2+ (io), 53 PTE3/RGPIO3/~{SS1} (io), 54 PTE2/RGPIO2/MISO1 (io), 55 PTG3/ADP19 (io), 56 PTG2/ADP18 (io), 57 PTG1 (io), 58 PTG0 (io), 59 PTE1/RGPIO1/MOSI1 (io), 60 PTE0/RGPIO0/TPM2CLK/SPSCK1 (io), 61 PTC5/RGPIO13/TPM3CH5/ACMP2O (io), 62 PTC4/RGPIO12/TPM3CH4/~{RSTO} (io), 63 PTA5/IRQ/TPM1CLK/~{RESET} (in), 64 PTA4/ACMP1O/BKGD/MS (out)
part B pins: 6 VDD (power), 7 VDDAD (power), 10 VSSAD (power), 11 VSS (power), 40 VDD (power), 41 VSS (power)